# Altium integrated library Motorola Microcontroller 16-Bit.IntLib: 323 symbols (part 19 of 21)
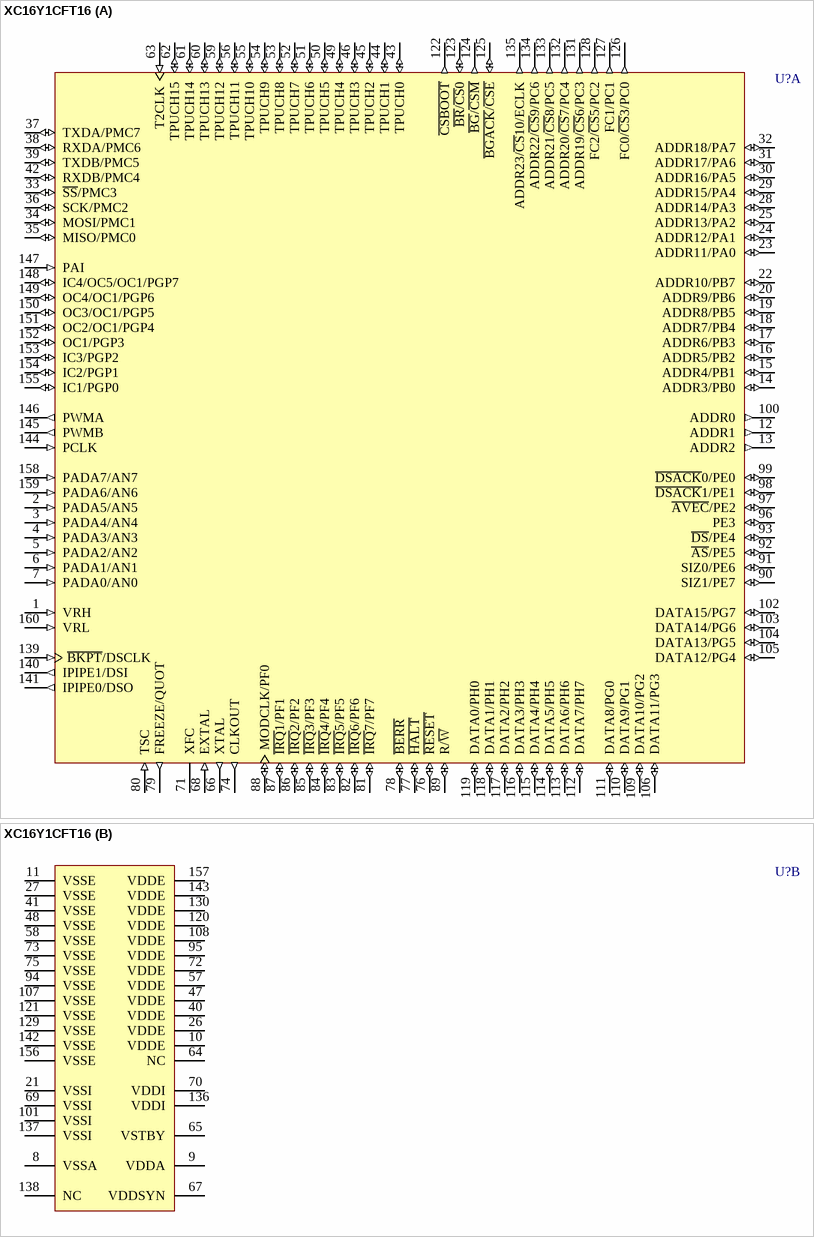
[diagram p158: symbol XC16Y1CFT16]

## XC16Y1CFT16
designator U?
16-Bit Microcontroller; PackageDocument: rev1.3, Nov-1998; Published: 21-Mar-2003; LatestRevisionDate: 6-Jun-2005; LatestRevisionNote: Stylized 3D Model Added.; DatasheetDocument: Jan-1993; PackageReference: 864A-01; Publisher: Altium Limited; Code_IPC: QFP28X28-160; ComponentLink1Description: Manufacturer Link; ComponentLink1URL: http://www.freescale.com/; ComponentLink2Description: Datasheet; ComponentLink2URL: http://www.freescale.com/files/microcontrollers/doc/prod_brief/MC68HC16Y1TS.pdf
footprint 864A-01 (QFP; 160 Leads; Body 28 x 28 mm; Pitch 0.65 mm)
3D model XC16-864A-01 (QFP; 160 Leads; Body 28 x 28 mm; Pitch 0.65 mm)
part A pins: 1 VRH (in), 2 PADA5/AN5 (in), 3 PADA4/AN4 (in), 4 PADA3/AN3 (in), 5 PADA2/AN2 (in), 6 PADA1/AN1 (in), 7 PADA0/AN0 (in), 12 ADDR1 (out), 13 ADDR2 (out), 14 ADDR3/PB0 (io), 15 ADDR4/PB1 (io), 16 ADDR5/PB2 (io), 17 ADDR6/PB3 (io), 18 ADDR7/PB4 (io), 19 ADDR8/PB5 (io), 20 ADDR9/PB6 (io), 22 ADDR10/PB7 (io), 23 ADDR11/PA0 (io), 24 ADDR12/PA1 (io), 25 ADDR13/PA2 (io), 28 ADDR14/PA3 (io), 29 ADDR15/PA4 (io), 30 ADDR16/PA5 (io), 31 ADDR17/PA6 (io), 32 ADDR18/PA7 (io), 33 ~{SS}/PMC3 (io), 34 MOSI/PMC1 (io), 35 MISO/PMC0 (io), 36 SCK/PMC2 (io), 37 TXDA/PMC7 (io), 38 RXDA/PMC6 (io), 39 TXDB/PMC5 (io), 42 RXDB/PMC4 (io), 43 TPUCH0 (io), 44 TPUCH1 (io), 45 TPUCH2 (io), 46 TPUCH3 (io), 49 TPUCH4 (io), 50 TPUCH5 (io), 51 TPUCH6 (io), 52 TPUCH7 (io), 53 TPUCH8 (io), 54 TPUCH9 (io), 55 TPUCH10 (io), 56 TPUCH11 (io), 59 TPUCH12 (io), 60 TPUCH13 (io), 61 TPUCH14 (io), 62 TPUCH15 (io), 63 T2CLK (in), 66 XTAL (out), 68 EXTAL (in), 71 XFC, 74 CLKOUT (out), 76 ~{RESET} (io), 77 ~{HALT} (io), 78 ~{BERR} (io), 79 FREEZE/QUOT (out), 80 TSC (in), 81 ~{IRQ}7/PF7 (io), 82 ~{IRQ}6/PF6 (io), 83 ~{IRQ}5/PF5 (io), 84 ~{IRQ}4/PF4 (io), 85 ~{IRQ}3/PF3 (io), 86 ~{IRQ}2/PF2 (io), 87 ~{IRQ}1/PF1 (io), 88 MODCLK/PF0 (io), 89 R/~{W} (io), 90 SIZ1/PE7 (io), 91 SIZ0/PE6 (io), 92 ~{AS}/PE5 (io), 93 ~{DS}/PE4 (io), 96 PE3 (io), 97 ~{AVEC}/PE2 (io), 98 ~{DSACK}1/PE1 (io), 99 ~{DSACK}0/PE0 (io), 100 ADDR0 (out), 102 DATA15/PG7 (io), 103 DATA14/PG6 (io), 104 DATA13/PG5 (io), 105 DATA12/PG4 (io), 106 DATA11/PG3 (io), 109 DATA10/PG2 (io), 110 DATA9/PG1 (io), 111 DATA8/PG0 (io), 112 DATA7/PH7 (io), 113 DATA6/PH6 (io), 114 DATA5/PH5 (io), 115 DATA4/PH4 (io), 116 DATA3/PH3 (io), 117 DATA2/PH2 (io), 118 DATA1/PH1 (io), 119 DATA0/PH0 (io), 122 ~{CSBOOT} (out), 123 ~{BR}/~{CS}0 (io), 124 ~{BG}/~{CSM} (out), 125 ~{BGACK}/~{CSE} (io), 126 FC0/~{CS}3/PC0 (out), 127 FC1/PC1 (out), 128 FC2/~{CS}5/PC2 (out), 131 ADDR19/~{CS}6/PC3 (out), 132 ADDR20/~{CS}7/PC4 (out), 133 ADDR21/~{CS}8/PC5 (out), 134 ADDR22/~{CS}9/PC6 (out), 135 ADDR23/~{CS}10/ECLK (out), 139 ~{BKPT}/DSCLK (in), 140 IPIPE1/DSI (out), 141 IPIPE0/DSO (out), 144 PCLK (in), 145 PWMB (out), 146 PWMA (out), 147 PAI (in), 148 IC4/OC5/OC1/PGP7 (io), 149 OC4/OC1/PGP6 (io), 150 OC3/OC1/PGP5 (io), 151 OC2/OC1/PGP4 (io), 152 OC1/PGP3 (io), 153 IC3/PGP2 (io), 154 IC2/PGP1 (io), 155 IC1/PGP0 (io), 158 PADA7/AN7 (in), 159 PADA6/AN6 (in), 160 VRL (in)
part B pins: 8 VSSA (power), 9 VDDA (power), 10 VDDE (power), 11 VSSE (power), 21 VSSI (power), 26 VDDE (power), 27 VSSE (power), 40 VDDE (power), 41 VSSE (power), 47 VDDE (power), 48 VSSE (power), 57 VDDE (power), 58 VSSE (power), 64 NC, 65 VSTBY (power), 67 VDDSYN (power), 69 VSSI (power), 70 VDDI (power), 72 VDDE (power), 73 VSSE (power), 75 VSSE (power), 94 VSSE (power), 95 VDDE (power), 101 VSSI (power), 107 VSSE (power), 108 VDDE (power), 120 VDDE (power), 121 VSSE (power), 129 VSSE (power), 130 VDDE (power), 136 VDDI (power), 137 VSSI (power), 138 NC, 142 VSSE (power), 143 VDDE (power), 156 VSSE (power), 157 VDDE (power)

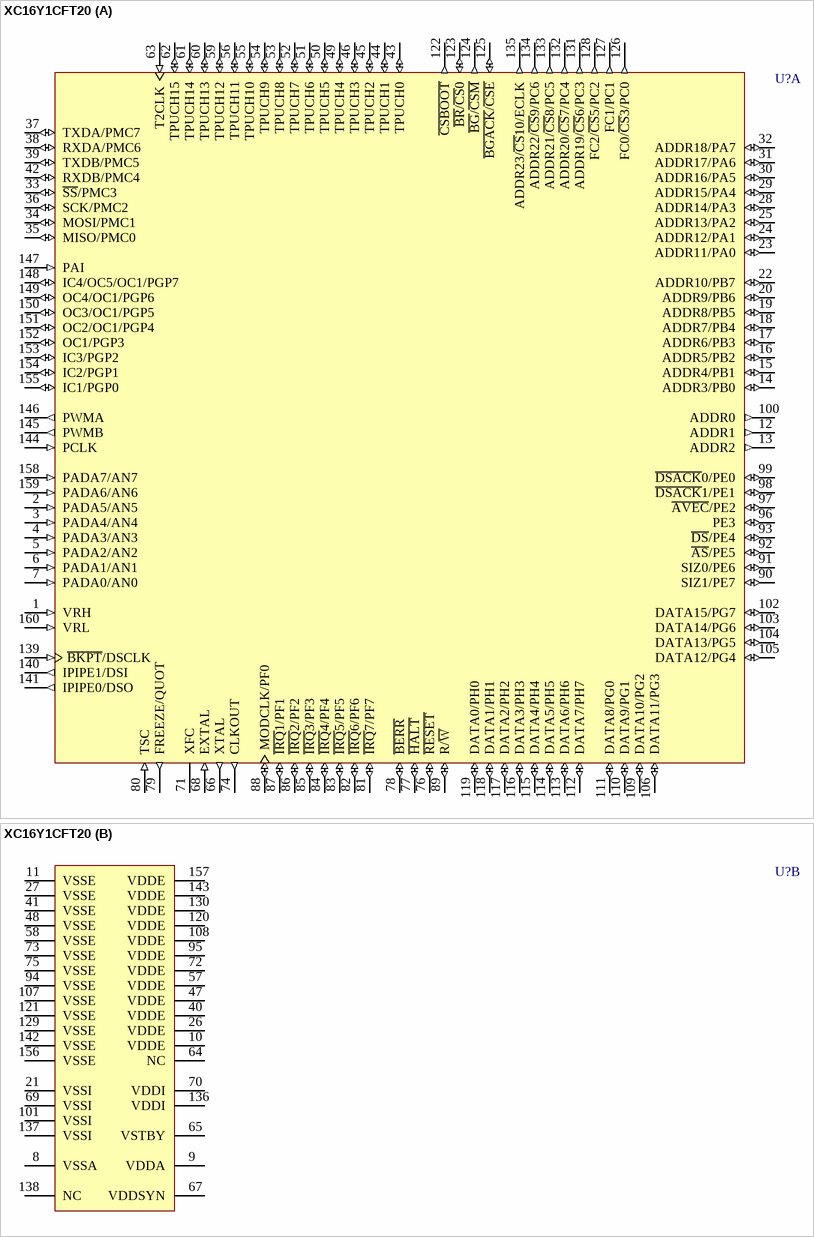
[diagram p123: symbol XC16Y1CFT20]

## XC16Y1CFT20
designator U?
16-Bit Microcontroller; PackageDocument: rev1.3, Nov-1998; Published: 21-Mar-2003; LatestRevisionDate: 6-Jun-2005; LatestRevisionNote: Stylized 3D Model Added.; DatasheetDocument: Jan-1993; PackageReference: 864A-01; Publisher: Altium Limited; Code_IPC: QFP28X28-160; ComponentLink1Description: Manufacturer Link; ComponentLink1URL: http://www.freescale.com/; ComponentLink2Description: Datasheet; ComponentLink2URL: http://www.freescale.com/files/microcontrollers/doc/prod_brief/MC68HC16Y1TS.pdf
footprint 864A-01 (QFP; 160 Leads; Body 28 x 28 mm; Pitch 0.65 mm)
3D model XC16-864A-01 (QFP; 160 Leads; Body 28 x 28 mm; Pitch 0.65 mm)
part A pins: 1 VRH (in), 2 PADA5/AN5 (in), 3 PADA4/AN4 (in), 4 PADA3/AN3 (in), 5 PADA2/AN2 (in), 6 PADA1/AN1 (in), 7 PADA0/AN0 (in), 12 ADDR1 (out), 13 ADDR2 (out), 14 ADDR3/PB0 (io), 15 ADDR4/PB1 (io), 16 ADDR5/PB2 (io), 17 ADDR6/PB3 (io), 18 ADDR7/PB4 (io), 19 ADDR8/PB5 (io), 20 ADDR9/PB6 (io), 22 ADDR10/PB7 (io), 23 ADDR11/PA0 (io), 24 ADDR12/PA1 (io), 25 ADDR13/PA2 (io), 28 ADDR14/PA3 (io), 29 ADDR15/PA4 (io), 30 ADDR16/PA5 (io), 31 ADDR17/PA6 (io), 32 ADDR18/PA7 (io), 33 ~{SS}/PMC3 (io), 34 MOSI/PMC1 (io), 35 MISO/PMC0 (io), 36 SCK/PMC2 (io), 37 TXDA/PMC7 (io), 38 RXDA/PMC6 (io), 39 TXDB/PMC5 (io), 42 RXDB/PMC4 (io), 43 TPUCH0 (io), 44 TPUCH1 (io), 45 TPUCH2 (io), 46 TPUCH3 (io), 49 TPUCH4 (io), 50 TPUCH5 (io), 51 TPUCH6 (io), 52 TPUCH7 (io), 53 TPUCH8 (io), 54 TPUCH9 (io), 55 TPUCH10 (io), 56 TPUCH11 (io), 59 TPUCH12 (io), 60 TPUCH13 (io), 61 TPUCH14 (io), 62 TPUCH15 (io), 63 T2CLK (in), 66 XTAL (out), 68 EXTAL (in), 71 XFC, 74 CLKOUT (out), 76 ~{RESET} (io), 77 ~{HALT} (io), 78 ~{BERR} (io), 79 FREEZE/QUOT (out), 80 TSC (in), 81 ~{IRQ}7/PF7 (io), 82 ~{IRQ}6/PF6 (io), 83 ~{IRQ}5/PF5 (io), 84 ~{IRQ}4/PF4 (io), 85 ~{IRQ}3/PF3 (io), 86 ~{IRQ}2/PF2 (io), 87 ~{IRQ}1/PF1 (io), 88 MODCLK/PF0 (io), 89 R/~{W} (io), 90 SIZ1/PE7 (io), 91 SIZ0/PE6 (io), 92 ~{AS}/PE5 (io), 93 ~{DS}/PE4 (io), 96 PE3 (io), 97 ~{AVEC}/PE2 (io), 98 ~{DSACK}1/PE1 (io), 99 ~{DSACK}0/PE0 (io), 100 ADDR0 (out), 102 DATA15/PG7 (io), 103 DATA14/PG6 (io), 104 DATA13/PG5 (io), 105 DATA12/PG4 (io), 106 DATA11/PG3 (io), 109 DATA10/PG2 (io), 110 DATA9/PG1 (io), 111 DATA8/PG0 (io), 112 DATA7/PH7 (io), 113 DATA6/PH6 (io), 114 DATA5/PH5 (io), 115 DATA4/PH4 (io), 116 DATA3/PH3 (io), 117 DATA2/PH2 (io), 118 DATA1/PH1 (io), 119 DATA0/PH0 (io), 122 ~{CSBOOT} (out), 123 ~{BR}/~{CS}0 (io), 124 ~{BG}/~{CSM} (out), 125 ~{BGACK}/~{CSE} (io), 126 FC0/~{CS}3/PC0 (out), 127 FC1/PC1 (out), 128 FC2/~{CS}5/PC2 (out), 131 ADDR19/~{CS}6/PC3 (out), 132 ADDR20/~{CS}7/PC4 (out), 133 ADDR21/~{CS}8/PC5 (out), 134 ADDR22/~{CS}9/PC6 (out), 135 ADDR23/~{CS}10/ECLK (out), 139 ~{BKPT}/DSCLK (in), 140 IPIPE1/DSI (out), 141 IPIPE0/DSO (out), 144 PCLK (in), 145 PWMB (out), 146 PWMA (out), 147 PAI (in), 148 IC4/OC5/OC1/PGP7 (io), 149 OC4/OC1/PGP6 (io), 150 OC3/OC1/PGP5 (io), 151 OC2/OC1/PGP4 (io), 152 OC1/PGP3 (io), 153 IC3/PGP2 (io), 154 IC2/PGP1 (io), 155 IC1/PGP0 (io), 158 PADA7/AN7 (in), 159 PADA6/AN6 (in), 160 VRL (in)
part B pins: 8 VSSA (power), 9 VDDA (power), 10 VDDE (power), 11 VSSE (power), 21 VSSI (power), 26 VDDE (power), 27 VSSE (power), 40 VDDE (power), 41 VSSE (power), 47 VDDE (power), 48 VSSE (power), 57 VDDE (power), 58 VSSE (power), 64 NC, 65 VSTBY (power), 67 VDDSYN (power), 69 VSSI (power), 70 VDDI (power), 72 VDDE (power), 73 VSSE (power), 75 VSSE (power), 94 VSSE (power), 95 VDDE (power), 101 VSSI (power), 107 VSSE (power), 108 VDDE (power), 120 VDDE (power), 121 VSSE (power), 129 VSSE (power), 130 VDDE (power), 136 VDDI (power), 137 VSSI (power), 138 NC, 142 VSSE (power), 143 VDDE (power), 156 VSSE (power), 157 VDDE (power)

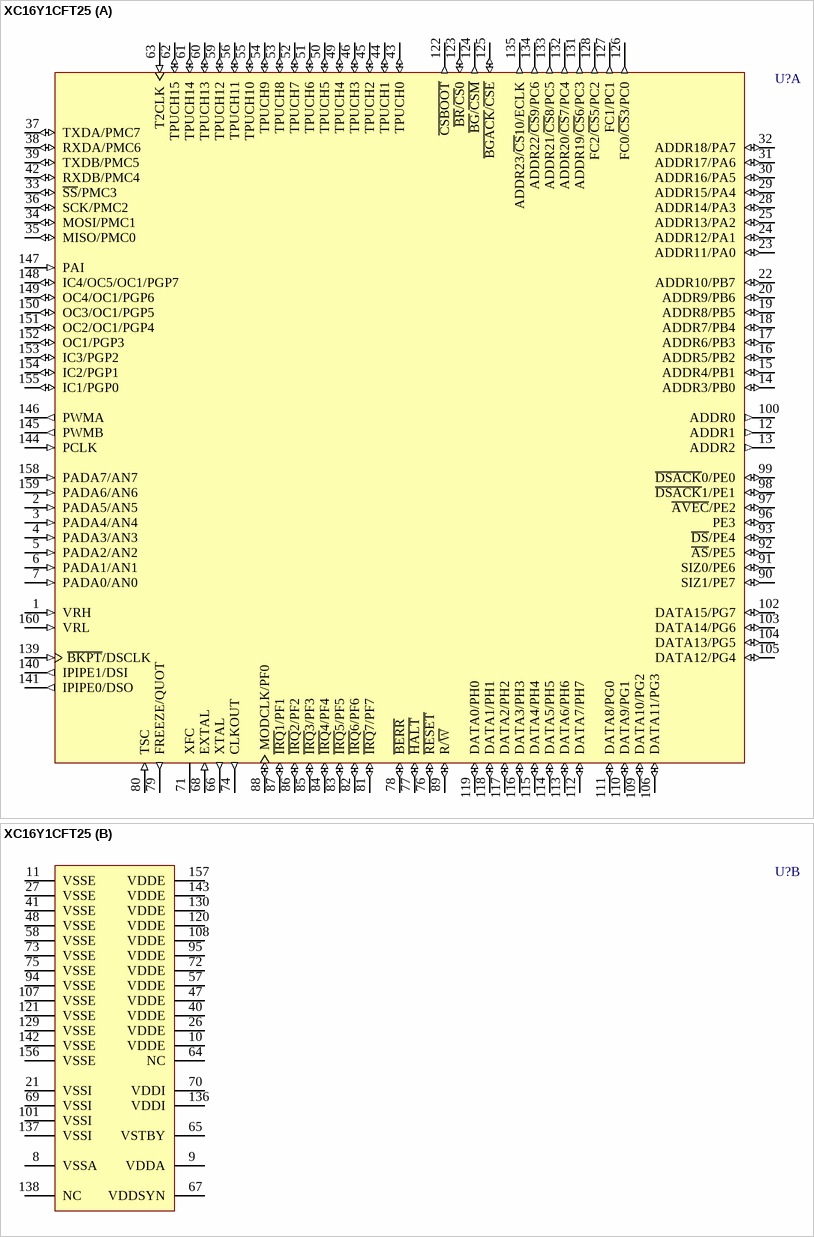
[diagram p124: symbol XC16Y1CFT25]

## XC16Y1CFT25
designator U?
16-Bit Microcontroller; PackageDocument: rev1.3, Nov-1998; Published: 21-Mar-2003; LatestRevisionDate: 6-Jun-2005; LatestRevisionNote: Stylized 3D Model Added.; DatasheetDocument: Jan-1993; PackageReference: 864A-01; Publisher: Altium Limited; Code_IPC: QFP28X28-160; ComponentLink1Description: Manufacturer Link; ComponentLink1URL: http://www.freescale.com/; ComponentLink2Description: Datasheet; ComponentLink2URL: http://www.freescale.com/files/microcontrollers/doc/prod_brief/MC68HC16Y1TS.pdf
footprint 864A-01 (QFP; 160 Leads; Body 28 x 28 mm; Pitch 0.65 mm)
3D model XC16-864A-01 (QFP; 160 Leads; Body 28 x 28 mm; Pitch 0.65 mm)
part A pins: 1 VRH (in), 2 PADA5/AN5 (in), 3 PADA4/AN4 (in), 4 PADA3/AN3 (in), 5 PADA2/AN2 (in), 6 PADA1/AN1 (in), 7 PADA0/AN0 (in), 12 ADDR1 (out), 13 ADDR2 (out), 14 ADDR3/PB0 (io), 15 ADDR4/PB1 (io), 16 ADDR5/PB2 (io), 17 ADDR6/PB3 (io), 18 ADDR7/PB4 (io), 19 ADDR8/PB5 (io), 20 ADDR9/PB6 (io), 22 ADDR10/PB7 (io), 23 ADDR11/PA0 (io), 24 ADDR12/PA1 (io), 25 ADDR13/PA2 (io), 28 ADDR14/PA3 (io), 29 ADDR15/PA4 (io), 30 ADDR16/PA5 (io), 31 ADDR17/PA6 (io), 32 ADDR18/PA7 (io), 33 ~{SS}/PMC3 (io), 34 MOSI/PMC1 (io), 35 MISO/PMC0 (io), 36 SCK/PMC2 (io), 37 TXDA/PMC7 (io), 38 RXDA/PMC6 (io), 39 TXDB/PMC5 (io), 42 RXDB/PMC4 (io), 43 TPUCH0 (io), 44 TPUCH1 (io), 45 TPUCH2 (io), 46 TPUCH3 (io), 49 TPUCH4 (io), 50 TPUCH5 (io), 51 TPUCH6 (io), 52 TPUCH7 (io), 53 TPUCH8 (io), 54 TPUCH9 (io), 55 TPUCH10 (io), 56 TPUCH11 (io), 59 TPUCH12 (io), 60 TPUCH13 (io), 61 TPUCH14 (io), 62 TPUCH15 (io), 63 T2CLK (in), 66 XTAL (out), 68 EXTAL (in), 71 XFC, 74 CLKOUT (out), 76 ~{RESET} (io), 77 ~{HALT} (io), 78 ~{BERR} (io), 79 FREEZE/QUOT (out), 80 TSC (in), 81 ~{IRQ}7/PF7 (io), 82 ~{IRQ}6/PF6 (io), 83 ~{IRQ}5/PF5 (io), 84 ~{IRQ}4/PF4 (io), 85 ~{IRQ}3/PF3 (io), 86 ~{IRQ}2/PF2 (io), 87 ~{IRQ}1/PF1 (io), 88 MODCLK/PF0 (io), 89 R/~{W} (io), 90 SIZ1/PE7 (io), 91 SIZ0/PE6 (io), 92 ~{AS}/PE5 (io), 93 ~{DS}/PE4 (io), 96 PE3 (io), 97 ~{AVEC}/PE2 (io), 98 ~{DSACK}1/PE1 (io), 99 ~{DSACK}0/PE0 (io), 100 ADDR0 (out), 102 DATA15/PG7 (io), 103 DATA14/PG6 (io), 104 DATA13/PG5 (io), 105 DATA12/PG4 (io), 106 DATA11/PG3 (io), 109 DATA10/PG2 (io), 110 DATA9/PG1 (io), 111 DATA8/PG0 (io), 112 DATA7/PH7 (io), 113 DATA6/PH6 (io), 114 DATA5/PH5 (io), 115 DATA4/PH4 (io), 116 DATA3/PH3 (io), 117 DATA2/PH2 (io), 118 DATA1/PH1 (io), 119 DATA0/PH0 (io), 122 ~{CSBOOT} (out), 123 ~{BR}/~{CS}0 (io), 124 ~{BG}/~{CSM} (out), 125 ~{BGACK}/~{CSE} (io), 126 FC0/~{CS}3/PC0 (out), 127 FC1/PC1 (out), 128 FC2/~{CS}5/PC2 (out), 131 ADDR19/~{CS}6/PC3 (out), 132 ADDR20/~{CS}7/PC4 (out), 133 ADDR21/~{CS}8/PC5 (out), 134 ADDR22/~{CS}9/PC6 (out), 135 ADDR23/~{CS}10/ECLK (out), 139 ~{BKPT}/DSCLK (in), 140 IPIPE1/DSI (out), 141 IPIPE0/DSO (out), 144 PCLK (in), 145 PWMB (out), 146 PWMA (out), 147 PAI (in), 148 IC4/OC5/OC1/PGP7 (io), 149 OC4/OC1/PGP6 (io), 150 OC3/OC1/PGP5 (io), 151 OC2/OC1/PGP4 (io), 152 OC1/PGP3 (io), 153 IC3/PGP2 (io), 154 IC2/PGP1 (io), 155 IC1/PGP0 (io), 158 PADA7/AN7 (in), 159 PADA6/AN6 (in), 160 VRL (in)
part B pins: 8 VSSA (power), 9 VDDA (power), 10 VDDE (power), 11 VSSE (power), 21 VSSI (power), 26 VDDE (power), 27 VSSE (power), 40 VDDE (power), 41 VSSE (power), 47 VDDE (power), 48 VSSE (power), 57 VDDE (power), 58 VSSE (power), 64 NC, 65 VSTBY (power), 67 VDDSYN (power), 69 VSSI (power), 70 VDDI (power), 72 VDDE (power), 73 VSSE (power), 75 VSSE (power), 94 VSSE (power), 95 VDDE (power), 101 VSSI (power), 107 VSSE (power), 108 VDDE (power), 120 VDDE (power), 121 VSSE (power), 129 VSSE (power), 130 VDDE (power), 136 VDDI (power), 137 VSSI (power), 138 NC, 142 VSSE (power), 143 VDDE (power), 156 VSSE (power), 157 VDDE (power)

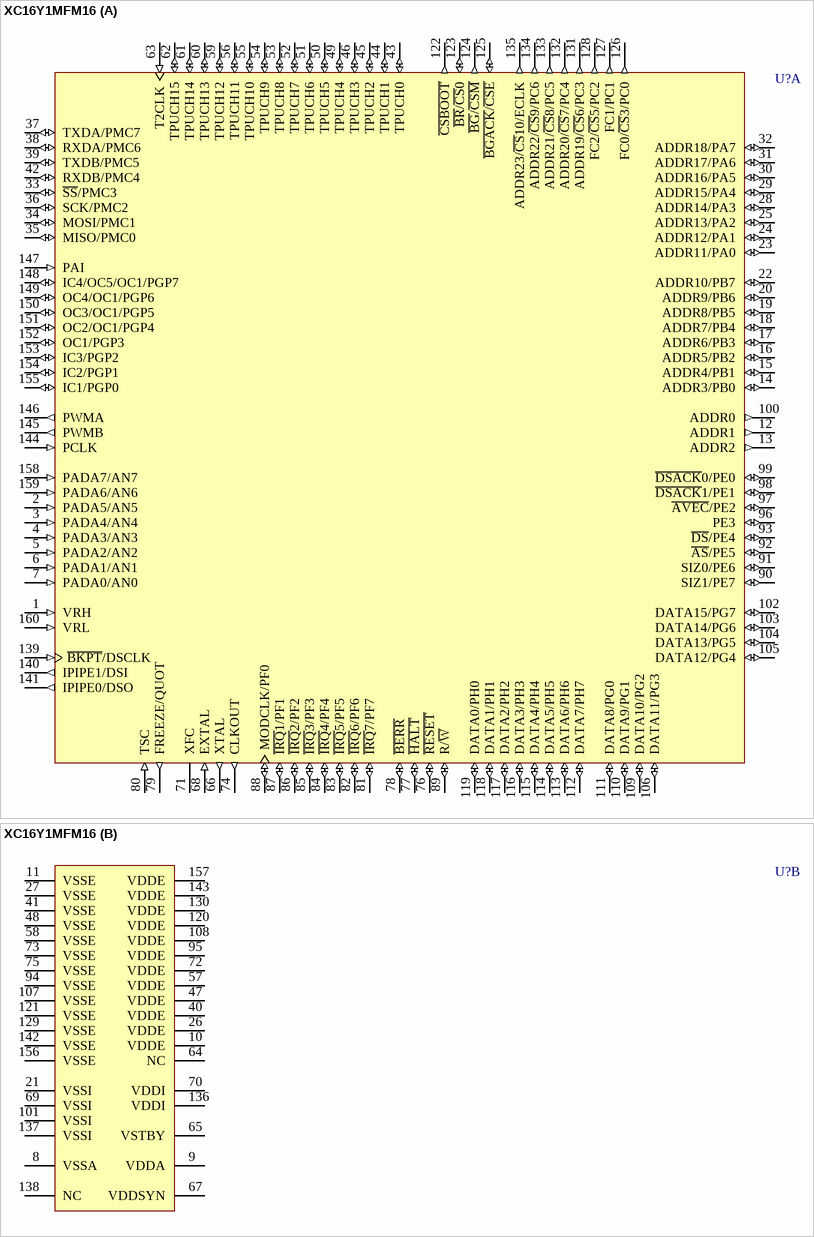
[diagram p125: symbol XC16Y1MFM16]

## XC16Y1MFM16
designator U?
16-Bit Microcontroller; PackageDocument: 1993; Published: 21-Mar-2003; LatestRevisionDate: 6-Jun-2005; LatestRevisionNote: Stylized 3D Model Added.; DatasheetDocument: Jan-1993; PackageReference: 887-01; Publisher: Altium Limited; ComponentLink1Description: Manufacturer Link; ComponentLink1URL: http://www.freescale.com/; ComponentLink2Description: Datasheet; ComponentLink2URL: http://www.freescale.com/files/microcontrollers/doc/prod_brief/MC68HC16Y1TS.pdf
footprint 887-01 (QFP, with Molded Carrier Ring; 160 Leads; Body 28 x 28 mm; Pitch 0.65mm)
3D model XC16-887-01 (QFP, with Molded Carrier Ring; 160 Leads; Body 28 x 28 mm; Pitch 0.65mm)
part A pins: 1 VRH (in), 2 PADA5/AN5 (in), 3 PADA4/AN4 (in), 4 PADA3/AN3 (in), 5 PADA2/AN2 (in), 6 PADA1/AN1 (in), 7 PADA0/AN0 (in), 12 ADDR1 (out), 13 ADDR2 (out), 14 ADDR3/PB0 (io), 15 ADDR4/PB1 (io), 16 ADDR5/PB2 (io), 17 ADDR6/PB3 (io), 18 ADDR7/PB4 (io), 19 ADDR8/PB5 (io), 20 ADDR9/PB6 (io), 22 ADDR10/PB7 (io), 23 ADDR11/PA0 (io), 24 ADDR12/PA1 (io), 25 ADDR13/PA2 (io), 28 ADDR14/PA3 (io), 29 ADDR15/PA4 (io), 30 ADDR16/PA5 (io), 31 ADDR17/PA6 (io), 32 ADDR18/PA7 (io), 33 ~{SS}/PMC3 (io), 34 MOSI/PMC1 (io), 35 MISO/PMC0 (io), 36 SCK/PMC2 (io), 37 TXDA/PMC7 (io), 38 RXDA/PMC6 (io), 39 TXDB/PMC5 (io), 42 RXDB/PMC4 (io), 43 TPUCH0 (io), 44 TPUCH1 (io), 45 TPUCH2 (io), 46 TPUCH3 (io), 49 TPUCH4 (io), 50 TPUCH5 (io), 51 TPUCH6 (io), 52 TPUCH7 (io), 53 TPUCH8 (io), 54 TPUCH9 (io), 55 TPUCH10 (io), 56 TPUCH11 (io), 59 TPUCH12 (io), 60 TPUCH13 (io), 61 TPUCH14 (io), 62 TPUCH15 (io), 63 T2CLK (in), 66 XTAL (out), 68 EXTAL (in), 71 XFC, 74 CLKOUT (out), 76 ~{RESET} (io), 77 ~{HALT} (io), 78 ~{BERR} (io), 79 FREEZE/QUOT (out), 80 TSC (in), 81 ~{IRQ}7/PF7 (io), 82 ~{IRQ}6/PF6 (io), 83 ~{IRQ}5/PF5 (io), 84 ~{IRQ}4/PF4 (io), 85 ~{IRQ}3/PF3 (io), 86 ~{IRQ}2/PF2 (io), 87 ~{IRQ}1/PF1 (io), 88 MODCLK/PF0 (io), 89 R/~{W} (io), 90 SIZ1/PE7 (io), 91 SIZ0/PE6 (io), 92 ~{AS}/PE5 (io), 93 ~{DS}/PE4 (io), 96 PE3 (io), 97 ~{AVEC}/PE2 (io), 98 ~{DSACK}1/PE1 (io), 99 ~{DSACK}0/PE0 (io), 100 ADDR0 (out), 102 DATA15/PG7 (io), 103 DATA14/PG6 (io), 104 DATA13/PG5 (io), 105 DATA12/PG4 (io), 106 DATA11/PG3 (io), 109 DATA10/PG2 (io), 110 DATA9/PG1 (io), 111 DATA8/PG0 (io), 112 DATA7/PH7 (io), 113 DATA6/PH6 (io), 114 DATA5/PH5 (io), 115 DATA4/PH4 (io), 116 DATA3/PH3 (io), 117 DATA2/PH2 (io), 118 DATA1/PH1 (io), 119 DATA0/PH0 (io), 122 ~{CSBOOT} (out), 123 ~{BR}/~{CS}0 (io), 124 ~{BG}/~{CSM} (out), 125 ~{BGACK}/~{CSE} (io), 126 FC0/~{CS}3/PC0 (out), 127 FC1/PC1 (out), 128 FC2/~{CS}5/PC2 (out), 131 ADDR19/~{CS}6/PC3 (out), 132 ADDR20/~{CS}7/PC4 (out), 133 ADDR21/~{CS}8/PC5 (out), 134 ADDR22/~{CS}9/PC6 (out), 135 ADDR23/~{CS}10/ECLK (out), 139 ~{BKPT}/DSCLK (in), 140 IPIPE1/DSI (out), 141 IPIPE0/DSO (out), 144 PCLK (in), 145 PWMB (out), 146 PWMA (out), 147 PAI (in), 148 IC4/OC5/OC1/PGP7 (io), 149 OC4/OC1/PGP6 (io), 150 OC3/OC1/PGP5 (io), 151 OC2/OC1/PGP4 (io), 152 OC1/PGP3 (io), 153 IC3/PGP2 (io), 154 IC2/PGP1 (io), 155 IC1/PGP0 (io), 158 PADA7/AN7 (in), 159 PADA6/AN6 (in), 160 VRL (in)
part B pins: 8 VSSA (power), 9 VDDA (power), 10 VDDE (power), 11 VSSE (power), 21 VSSI (power), 26 VDDE (power), 27 VSSE (power), 40 VDDE (power), 41 VSSE (power), 47 VDDE (power), 48 VSSE (power), 57 VDDE (power), 58 VSSE (power), 64 NC, 65 VSTBY (power), 67 VDDSYN (power), 69 VSSI (power), 70 VDDI (power), 72 VDDE (power), 73 VSSE (power), 75 VSSE (power), 94 VSSE (power), 95 VDDE (power), 101 VSSI (power), 107 VSSE (power), 108 VDDE (power), 120 VDDE (power), 121 VSSE (power), 129 VSSE (power), 130 VDDE (power), 136 VDDI (power), 137 VSSI (power), 138 NC, 142 VSSE (power), 143 VDDE (power), 156 VSSE (power), 157 VDDE (power)

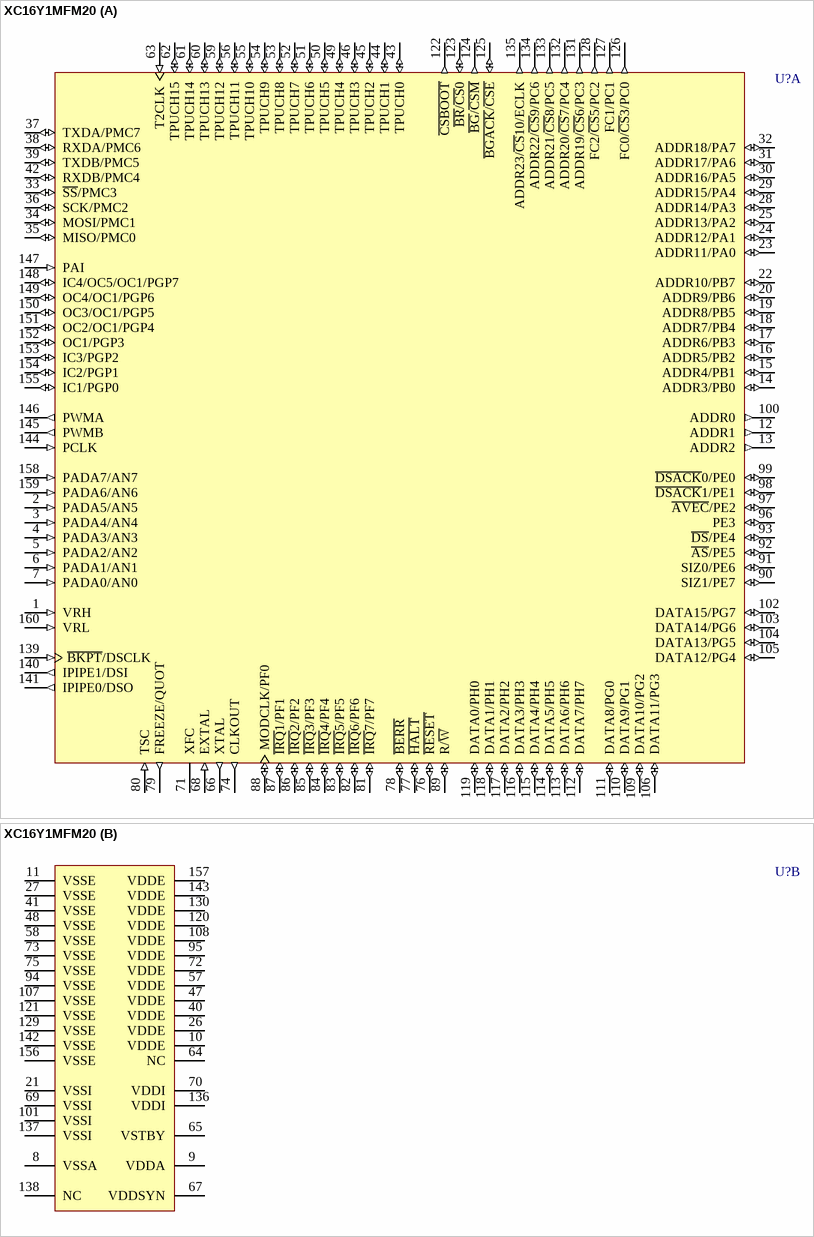
[diagram p126: symbol XC16Y1MFM20]

## XC16Y1MFM20
designator U?
16-Bit Microcontroller; PackageDocument: 1993; Published: 21-Mar-2003; LatestRevisionDate: 6-Jun-2005; LatestRevisionNote: Stylized 3D Model Added.; DatasheetDocument: Jan-1993; PackageReference: 887-01; Publisher: Altium Limited; ComponentLink1Description: Manufacturer Link; ComponentLink1URL: http://www.freescale.com/; ComponentLink2Description: Datasheet; ComponentLink2URL: http://www.freescale.com/files/microcontrollers/doc/prod_brief/MC68HC16Y1TS.pdf
footprint 887-01 (QFP, with Molded Carrier Ring; 160 Leads; Body 28 x 28 mm; Pitch 0.65mm)
3D model XC16-887-01 (QFP, with Molded Carrier Ring; 160 Leads; Body 28 x 28 mm; Pitch 0.65mm)
part A pins: 1 VRH (in), 2 PADA5/AN5 (in), 3 PADA4/AN4 (in), 4 PADA3/AN3 (in), 5 PADA2/AN2 (in), 6 PADA1/AN1 (in), 7 PADA0/AN0 (in), 12 ADDR1 (out), 13 ADDR2 (out), 14 ADDR3/PB0 (io), 15 ADDR4/PB1 (io), 16 ADDR5/PB2 (io), 17 ADDR6/PB3 (io), 18 ADDR7/PB4 (io), 19 ADDR8/PB5 (io), 20 ADDR9/PB6 (io), 22 ADDR10/PB7 (io), 23 ADDR11/PA0 (io), 24 ADDR12/PA1 (io), 25 ADDR13/PA2 (io), 28 ADDR14/PA3 (io), 29 ADDR15/PA4 (io), 30 ADDR16/PA5 (io), 31 ADDR17/PA6 (io), 32 ADDR18/PA7 (io), 33 ~{SS}/PMC3 (io), 34 MOSI/PMC1 (io), 35 MISO/PMC0 (io), 36 SCK/PMC2 (io), 37 TXDA/PMC7 (io), 38 RXDA/PMC6 (io), 39 TXDB/PMC5 (io), 42 RXDB/PMC4 (io), 43 TPUCH0 (io), 44 TPUCH1 (io), 45 TPUCH2 (io), 46 TPUCH3 (io), 49 TPUCH4 (io), 50 TPUCH5 (io), 51 TPUCH6 (io), 52 TPUCH7 (io), 53 TPUCH8 (io), 54 TPUCH9 (io), 55 TPUCH10 (io), 56 TPUCH11 (io), 59 TPUCH12 (io), 60 TPUCH13 (io), 61 TPUCH14 (io), 62 TPUCH15 (io), 63 T2CLK (in), 66 XTAL (out), 68 EXTAL (in), 71 XFC, 74 CLKOUT (out), 76 ~{RESET} (io), 77 ~{HALT} (io), 78 ~{BERR} (io), 79 FREEZE/QUOT (out), 80 TSC (in), 81 ~{IRQ}7/PF7 (io), 82 ~{IRQ}6/PF6 (io), 83 ~{IRQ}5/PF5 (io), 84 ~{IRQ}4/PF4 (io), 85 ~{IRQ}3/PF3 (io), 86 ~{IRQ}2/PF2 (io), 87 ~{IRQ}1/PF1 (io), 88 MODCLK/PF0 (io), 89 R/~{W} (io), 90 SIZ1/PE7 (io), 91 SIZ0/PE6 (io), 92 ~{AS}/PE5 (io), 93 ~{DS}/PE4 (io), 96 PE3 (io), 97 ~{AVEC}/PE2 (io), 98 ~{DSACK}1/PE1 (io), 99 ~{DSACK}0/PE0 (io), 100 ADDR0 (out), 102 DATA15/PG7 (io), 103 DATA14/PG6 (io), 104 DATA13/PG5 (io), 105 DATA12/PG4 (io), 106 DATA11/PG3 (io), 109 DATA10/PG2 (io), 110 DATA9/PG1 (io), 111 DATA8/PG0 (io), 112 DATA7/PH7 (io), 113 DATA6/PH6 (io), 114 DATA5/PH5 (io), 115 DATA4/PH4 (io), 116 DATA3/PH3 (io), 117 DATA2/PH2 (io), 118 DATA1/PH1 (io), 119 DATA0/PH0 (io), 122 ~{CSBOOT} (out), 123 ~{BR}/~{CS}0 (io), 124 ~{BG}/~{CSM} (out), 125 ~{BGACK}/~{CSE} (io), 126 FC0/~{CS}3/PC0 (out), 127 FC1/PC1 (out), 128 FC2/~{CS}5/PC2 (out), 131 ADDR19/~{CS}6/PC3 (out), 132 ADDR20/~{CS}7/PC4 (out), 133 ADDR21/~{CS}8/PC5 (out), 134 ADDR22/~{CS}9/PC6 (out), 135 ADDR23/~{CS}10/ECLK (out), 139 ~{BKPT}/DSCLK (in), 140 IPIPE1/DSI (out), 141 IPIPE0/DSO (out), 144 PCLK (in), 145 PWMB (out), 146 PWMA (out), 147 PAI (in), 148 IC4/OC5/OC1/PGP7 (io), 149 OC4/OC1/PGP6 (io), 150 OC3/OC1/PGP5 (io), 151 OC2/OC1/PGP4 (io), 152 OC1/PGP3 (io), 153 IC3/PGP2 (io), 154 IC2/PGP1 (io), 155 IC1/PGP0 (io), 158 PADA7/AN7 (in), 159 PADA6/AN6 (in), 160 VRL (in)
part B pins: 8 VSSA (power), 9 VDDA (power), 10 VDDE (power), 11 VSSE (power), 21 VSSI (power), 26 VDDE (power), 27 VSSE (power), 40 VDDE (power), 41 VSSE (power), 47 VDDE (power), 48 VSSE (power), 57 VDDE (power), 58 VSSE (power), 64 NC, 65 VSTBY (power), 67 VDDSYN (power), 69 VSSI (power), 70 VDDI (power), 72 VDDE (power), 73 VSSE (power), 75 VSSE (power), 94 VSSE (power), 95 VDDE (power), 101 VSSI (power), 107 VSSE (power), 108 VDDE (power), 120 VDDE (power), 121 VSSE (power), 129 VSSE (power), 130 VDDE (power), 136 VDDI (power), 137 VSSI (power), 138 NC, 142 VSSE (power), 143 VDDE (power), 156 VSSE (power), 157 VDDE (power)

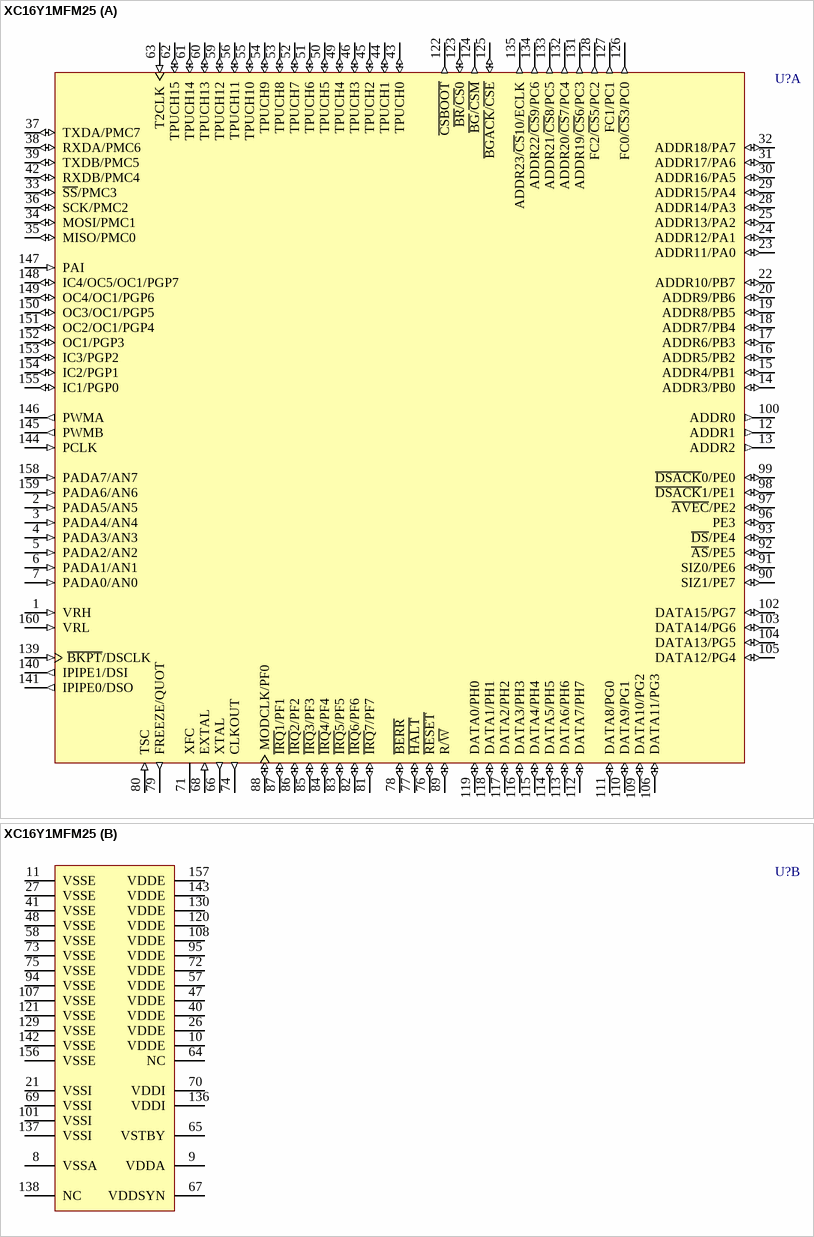
[diagram p127: symbol XC16Y1MFM25]

## XC16Y1MFM25
designator U?
16-Bit Microcontroller; PackageDocument: 1993; Published: 21-Mar-2003; LatestRevisionDate: 6-Jun-2005; LatestRevisionNote: Stylized 3D Model Added.; DatasheetDocument: Jan-1993; PackageReference: 887-01; Publisher: Altium Limited; ComponentLink1Description: Manufacturer Link; ComponentLink1URL: http://www.freescale.com/; ComponentLink2Description: Datasheet; ComponentLink2URL: http://www.freescale.com/files/microcontrollers/doc/prod_brief/MC68HC16Y1TS.pdf
footprint 887-01 (QFP, with Molded Carrier Ring; 160 Leads; Body 28 x 28 mm; Pitch 0.65mm)
3D model XC16-887-01 (QFP, with Molded Carrier Ring; 160 Leads; Body 28 x 28 mm; Pitch 0.65mm)
part A pins: 1 VRH (in), 2 PADA5/AN5 (in), 3 PADA4/AN4 (in), 4 PADA3/AN3 (in), 5 PADA2/AN2 (in), 6 PADA1/AN1 (in), 7 PADA0/AN0 (in), 12 ADDR1 (out), 13 ADDR2 (out), 14 ADDR3/PB0 (io), 15 ADDR4/PB1 (io), 16 ADDR5/PB2 (io), 17 ADDR6/PB3 (io), 18 ADDR7/PB4 (io), 19 ADDR8/PB5 (io), 20 ADDR9/PB6 (io), 22 ADDR10/PB7 (io), 23 ADDR11/PA0 (io), 24 ADDR12/PA1 (io), 25 ADDR13/PA2 (io), 28 ADDR14/PA3 (io), 29 ADDR15/PA4 (io), 30 ADDR16/PA5 (io), 31 ADDR17/PA6 (io), 32 ADDR18/PA7 (io), 33 ~{SS}/PMC3 (io), 34 MOSI/PMC1 (io), 35 MISO/PMC0 (io), 36 SCK/PMC2 (io), 37 TXDA/PMC7 (io), 38 RXDA/PMC6 (io), 39 TXDB/PMC5 (io), 42 RXDB/PMC4 (io), 43 TPUCH0 (io), 44 TPUCH1 (io), 45 TPUCH2 (io), 46 TPUCH3 (io), 49 TPUCH4 (io), 50 TPUCH5 (io), 51 TPUCH6 (io), 52 TPUCH7 (io), 53 TPUCH8 (io), 54 TPUCH9 (io), 55 TPUCH10 (io), 56 TPUCH11 (io), 59 TPUCH12 (io), 60 TPUCH13 (io), 61 TPUCH14 (io), 62 TPUCH15 (io), 63 T2CLK (in), 66 XTAL (out), 68 EXTAL (in), 71 XFC, 74 CLKOUT (out), 76 ~{RESET} (io), 77 ~{HALT} (io), 78 ~{BERR} (io), 79 FREEZE/QUOT (out), 80 TSC (in), 81 ~{IRQ}7/PF7 (io), 82 ~{IRQ}6/PF6 (io), 83 ~{IRQ}5/PF5 (io), 84 ~{IRQ}4/PF4 (io), 85 ~{IRQ}3/PF3 (io), 86 ~{IRQ}2/PF2 (io), 87 ~{IRQ}1/PF1 (io), 88 MODCLK/PF0 (io), 89 R/~{W} (io), 90 SIZ1/PE7 (io), 91 SIZ0/PE6 (io), 92 ~{AS}/PE5 (io), 93 ~{DS}/PE4 (io), 96 PE3 (io), 97 ~{AVEC}/PE2 (io), 98 ~{DSACK}1/PE1 (io), 99 ~{DSACK}0/PE0 (io), 100 ADDR0 (out), 102 DATA15/PG7 (io), 103 DATA14/PG6 (io), 104 DATA13/PG5 (io), 105 DATA12/PG4 (io), 106 DATA11/PG3 (io), 109 DATA10/PG2 (io), 110 DATA9/PG1 (io), 111 DATA8/PG0 (io), 112 DATA7/PH7 (io), 113 DATA6/PH6 (io), 114 DATA5/PH5 (io), 115 DATA4/PH4 (io), 116 DATA3/PH3 (io), 117 DATA2/PH2 (io), 118 DATA1/PH1 (io), 119 DATA0/PH0 (io), 122 ~{CSBOOT} (out), 123 ~{BR}/~{CS}0 (io), 124 ~{BG}/~{CSM} (out), 125 ~{BGACK}/~{CSE} (io), 126 FC0/~{CS}3/PC0 (out), 127 FC1/PC1 (out), 128 FC2/~{CS}5/PC2 (out), 131 ADDR19/~{CS}6/PC3 (out), 132 ADDR20/~{CS}7/PC4 (out), 133 ADDR21/~{CS}8/PC5 (out), 134 ADDR22/~{CS}9/PC6 (out), 135 ADDR23/~{CS}10/ECLK (out), 139 ~{BKPT}/DSCLK (in), 140 IPIPE1/DSI (out), 141 IPIPE0/DSO (out), 144 PCLK (in), 145 PWMB (out), 146 PWMA (out), 147 PAI (in), 148 IC4/OC5/OC1/PGP7 (io), 149 OC4/OC1/PGP6 (io), 150 OC3/OC1/PGP5 (io), 151 OC2/OC1/PGP4 (io), 152 OC1/PGP3 (io), 153 IC3/PGP2 (io), 154 IC2/PGP1 (io), 155 IC1/PGP0 (io), 158 PADA7/AN7 (in), 159 PADA6/AN6 (in), 160 VRL (in)
part B pins: 8 VSSA (power), 9 VDDA (power), 10 VDDE (power), 11 VSSE (power), 21 VSSI (power), 26 VDDE (power), 27 VSSE (power), 40 VDDE (power), 41 VSSE (power), 47 VDDE (power), 48 VSSE (power), 57 VDDE (power), 58 VSSE (power), 64 NC, 65 VSTBY (power), 67 VDDSYN (power), 69 VSSI (power), 70 VDDI (power), 72 VDDE (power), 73 VSSE (power), 75 VSSE (power), 94 VSSE (power), 95 VDDE (power), 101 VSSI (power), 107 VSSE (power), 108 VDDE (power), 120 VDDE (power), 121 VSSE (power), 129 VSSE (power), 130 VDDE (power), 136 VDDI (power), 137 VSSI (power), 138 NC, 142 VSSE (power), 143 VDDE (power), 156 VSSE (power), 157 VDDE (power)

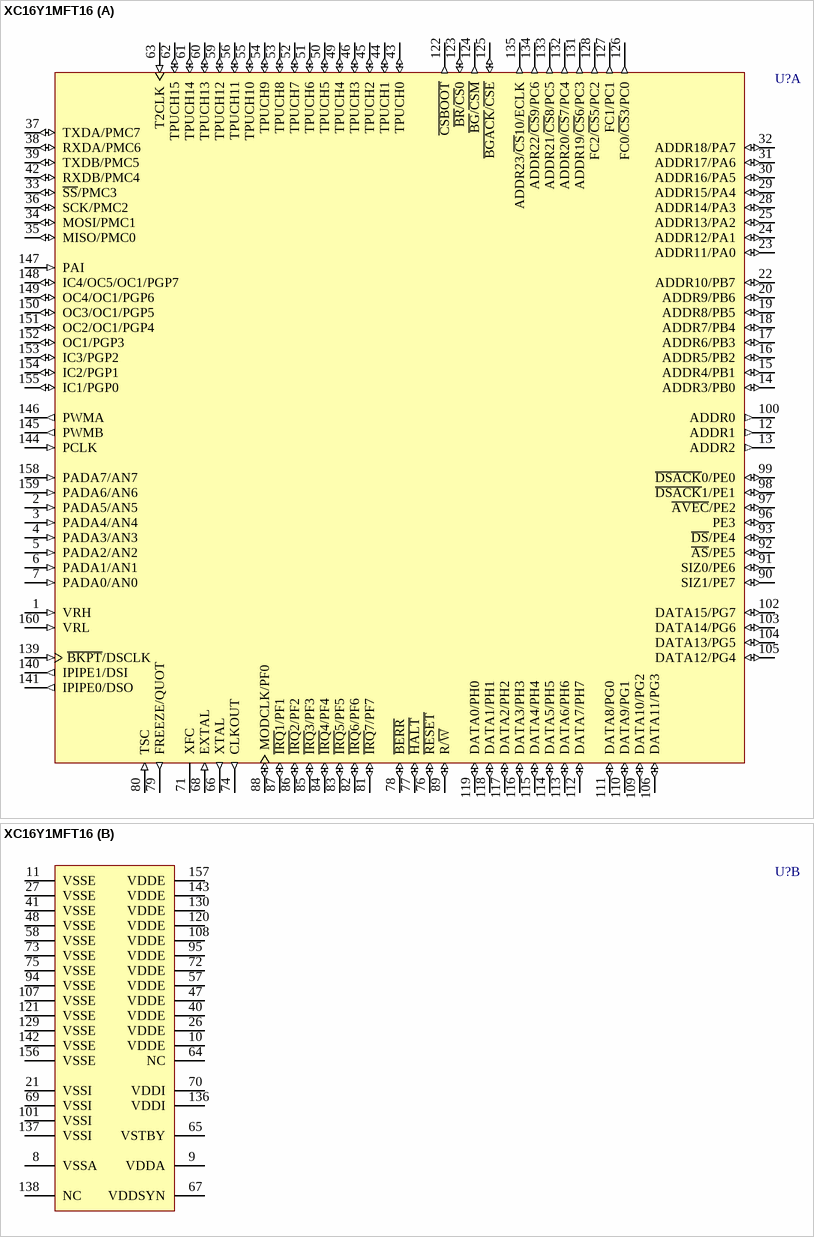
[diagram p128: symbol XC16Y1MFT16]

## XC16Y1MFT16
designator U?
16-Bit Microcontroller; PackageDocument: rev1.3, Nov-1998; Published: 21-Mar-2003; LatestRevisionDate: 6-Jun-2005; LatestRevisionNote: Stylized 3D Model Added.; DatasheetDocument: Jan-1993; PackageReference: 864A-01; Publisher: Altium Limited; Code_IPC: QFP28X28-160; ComponentLink1Description: Manufacturer Link; ComponentLink1URL: http://www.freescale.com/; ComponentLink2Description: Datasheet; ComponentLink2URL: http://www.freescale.com/files/microcontrollers/doc/prod_brief/MC68HC16Y1TS.pdf
footprint 864A-01 (QFP; 160 Leads; Body 28 x 28 mm; Pitch 0.65 mm)
3D model XC16-864A-01 (QFP; 160 Leads; Body 28 x 28 mm; Pitch 0.65 mm)
part A pins: 1 VRH (in), 2 PADA5/AN5 (in), 3 PADA4/AN4 (in), 4 PADA3/AN3 (in), 5 PADA2/AN2 (in), 6 PADA1/AN1 (in), 7 PADA0/AN0 (in), 12 ADDR1 (out), 13 ADDR2 (out), 14 ADDR3/PB0 (io), 15 ADDR4/PB1 (io), 16 ADDR5/PB2 (io), 17 ADDR6/PB3 (io), 18 ADDR7/PB4 (io), 19 ADDR8/PB5 (io), 20 ADDR9/PB6 (io), 22 ADDR10/PB7 (io), 23 ADDR11/PA0 (io), 24 ADDR12/PA1 (io), 25 ADDR13/PA2 (io), 28 ADDR14/PA3 (io), 29 ADDR15/PA4 (io), 30 ADDR16/PA5 (io), 31 ADDR17/PA6 (io), 32 ADDR18/PA7 (io), 33 ~{SS}/PMC3 (io), 34 MOSI/PMC1 (io), 35 MISO/PMC0 (io), 36 SCK/PMC2 (io), 37 TXDA/PMC7 (io), 38 RXDA/PMC6 (io), 39 TXDB/PMC5 (io), 42 RXDB/PMC4 (io), 43 TPUCH0 (io), 44 TPUCH1 (io), 45 TPUCH2 (io), 46 TPUCH3 (io), 49 TPUCH4 (io), 50 TPUCH5 (io), 51 TPUCH6 (io), 52 TPUCH7 (io), 53 TPUCH8 (io), 54 TPUCH9 (io), 55 TPUCH10 (io), 56 TPUCH11 (io), 59 TPUCH12 (io), 60 TPUCH13 (io), 61 TPUCH14 (io), 62 TPUCH15 (io), 63 T2CLK (in), 66 XTAL (out), 68 EXTAL (in), 71 XFC, 74 CLKOUT (out), 76 ~{RESET} (io), 77 ~{HALT} (io), 78 ~{BERR} (io), 79 FREEZE/QUOT (out), 80 TSC (in), 81 ~{IRQ}7/PF7 (io), 82 ~{IRQ}6/PF6 (io), 83 ~{IRQ}5/PF5 (io), 84 ~{IRQ}4/PF4 (io), 85 ~{IRQ}3/PF3 (io), 86 ~{IRQ}2/PF2 (io), 87 ~{IRQ}1/PF1 (io), 88 MODCLK/PF0 (io), 89 R/~{W} (io), 90 SIZ1/PE7 (io), 91 SIZ0/PE6 (io), 92 ~{AS}/PE5 (io), 93 ~{DS}/PE4 (io), 96 PE3 (io), 97 ~{AVEC}/PE2 (io), 98 ~{DSACK}1/PE1 (io), 99 ~{DSACK}0/PE0 (io), 100 ADDR0 (out), 102 DATA15/PG7 (io), 103 DATA14/PG6 (io), 104 DATA13/PG5 (io), 105 DATA12/PG4 (io), 106 DATA11/PG3 (io), 109 DATA10/PG2 (io), 110 DATA9/PG1 (io), 111 DATA8/PG0 (io), 112 DATA7/PH7 (io), 113 DATA6/PH6 (io), 114 DATA5/PH5 (io), 115 DATA4/PH4 (io), 116 DATA3/PH3 (io), 117 DATA2/PH2 (io), 118 DATA1/PH1 (io), 119 DATA0/PH0 (io), 122 ~{CSBOOT} (out), 123 ~{BR}/~{CS}0 (io), 124 ~{BG}/~{CSM} (out), 125 ~{BGACK}/~{CSE} (io), 126 FC0/~{CS}3/PC0 (out), 127 FC1/PC1 (out), 128 FC2/~{CS}5/PC2 (out), 131 ADDR19/~{CS}6/PC3 (out), 132 ADDR20/~{CS}7/PC4 (out), 133 ADDR21/~{CS}8/PC5 (out), 134 ADDR22/~{CS}9/PC6 (out), 135 ADDR23/~{CS}10/ECLK (out), 139 ~{BKPT}/DSCLK (in), 140 IPIPE1/DSI (out), 141 IPIPE0/DSO (out), 144 PCLK (in), 145 PWMB (out), 146 PWMA (out), 147 PAI (in), 148 IC4/OC5/OC1/PGP7 (io), 149 OC4/OC1/PGP6 (io), 150 OC3/OC1/PGP5 (io), 151 OC2/OC1/PGP4 (io), 152 OC1/PGP3 (io), 153 IC3/PGP2 (io), 154 IC2/PGP1 (io), 155 IC1/PGP0 (io), 158 PADA7/AN7 (in), 159 PADA6/AN6 (in), 160 VRL (in)
part B pins: 8 VSSA (power), 9 VDDA (power), 10 VDDE (power), 11 VSSE (power), 21 VSSI (power), 26 VDDE (power), 27 VSSE (power), 40 VDDE (power), 41 VSSE (power), 47 VDDE (power), 48 VSSE (power), 57 VDDE (power), 58 VSSE (power), 64 NC, 65 VSTBY (power), 67 VDDSYN (power), 69 VSSI (power), 70 VDDI (power), 72 VDDE (power), 73 VSSE (power), 75 VSSE (power), 94 VSSE (power), 95 VDDE (power), 101 VSSI (power), 107 VSSE (power), 108 VDDE (power), 120 VDDE (power), 121 VSSE (power), 129 VSSE (power), 130 VDDE (power), 136 VDDI (power), 137 VSSI (power), 138 NC, 142 VSSE (power), 143 VDDE (power), 156 VSSE (power), 157 VDDE (power)

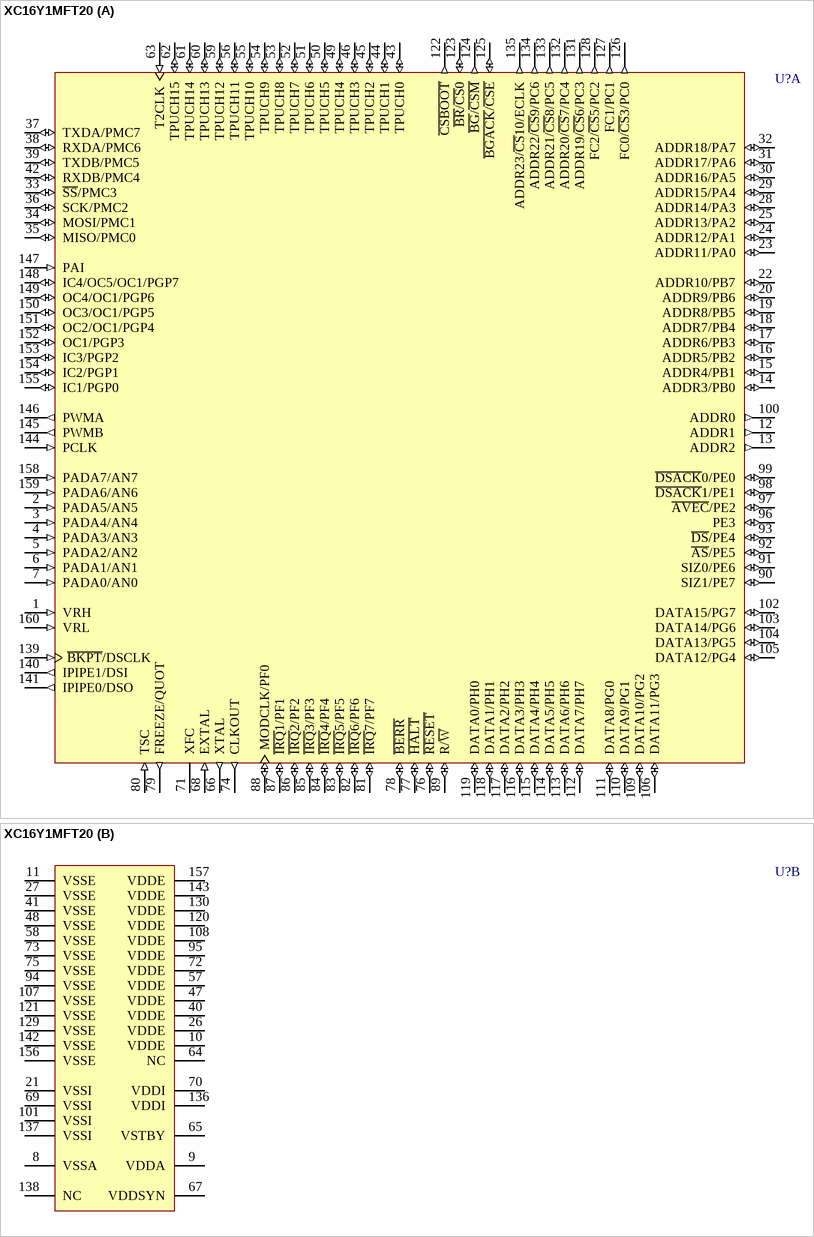
[diagram p129: symbol XC16Y1MFT20]

## XC16Y1MFT20
designator U?
16-Bit Microcontroller; PackageDocument: rev1.3, Nov-1998; Published: 21-Mar-2003; LatestRevisionDate: 6-Jun-2005; LatestRevisionNote: Stylized 3D Model Added.; DatasheetDocument: Jan-1993; PackageReference: 864A-01; Publisher: Altium Limited; Code_IPC: QFP28X28-160; ComponentLink1Description: Manufacturer Link; ComponentLink1URL: http://www.freescale.com/; ComponentLink2Description: Datasheet; ComponentLink2URL: http://www.freescale.com/files/microcontrollers/doc/prod_brief/MC68HC16Y1TS.pdf
footprint 864A-01 (QFP; 160 Leads; Body 28 x 28 mm; Pitch 0.65 mm)
3D model XC16-864A-01 (QFP; 160 Leads; Body 28 x 28 mm; Pitch 0.65 mm)
part A pins: 1 VRH (in), 2 PADA5/AN5 (in), 3 PADA4/AN4 (in), 4 PADA3/AN3 (in), 5 PADA2/AN2 (in), 6 PADA1/AN1 (in), 7 PADA0/AN0 (in), 12 ADDR1 (out), 13 ADDR2 (out), 14 ADDR3/PB0 (io), 15 ADDR4/PB1 (io), 16 ADDR5/PB2 (io), 17 ADDR6/PB3 (io), 18 ADDR7/PB4 (io), 19 ADDR8/PB5 (io), 20 ADDR9/PB6 (io), 22 ADDR10/PB7 (io), 23 ADDR11/PA0 (io), 24 ADDR12/PA1 (io), 25 ADDR13/PA2 (io), 28 ADDR14/PA3 (io), 29 ADDR15/PA4 (io), 30 ADDR16/PA5 (io), 31 ADDR17/PA6 (io), 32 ADDR18/PA7 (io), 33 ~{SS}/PMC3 (io), 34 MOSI/PMC1 (io), 35 MISO/PMC0 (io), 36 SCK/PMC2 (io), 37 TXDA/PMC7 (io), 38 RXDA/PMC6 (io), 39 TXDB/PMC5 (io), 42 RXDB/PMC4 (io), 43 TPUCH0 (io), 44 TPUCH1 (io), 45 TPUCH2 (io), 46 TPUCH3 (io), 49 TPUCH4 (io), 50 TPUCH5 (io), 51 TPUCH6 (io), 52 TPUCH7 (io), 53 TPUCH8 (io), 54 TPUCH9 (io), 55 TPUCH10 (io), 56 TPUCH11 (io), 59 TPUCH12 (io), 60 TPUCH13 (io), 61 TPUCH14 (io), 62 TPUCH15 (io), 63 T2CLK (in), 66 XTAL (out), 68 EXTAL (in), 71 XFC, 74 CLKOUT (out), 76 ~{RESET} (io), 77 ~{HALT} (io), 78 ~{BERR} (io), 79 FREEZE/QUOT (out), 80 TSC (in), 81 ~{IRQ}7/PF7 (io), 82 ~{IRQ}6/PF6 (io), 83 ~{IRQ}5/PF5 (io), 84 ~{IRQ}4/PF4 (io), 85 ~{IRQ}3/PF3 (io), 86 ~{IRQ}2/PF2 (io), 87 ~{IRQ}1/PF1 (io), 88 MODCLK/PF0 (io), 89 R/~{W} (io), 90 SIZ1/PE7 (io), 91 SIZ0/PE6 (io), 92 ~{AS}/PE5 (io), 93 ~{DS}/PE4 (io), 96 PE3 (io), 97 ~{AVEC}/PE2 (io), 98 ~{DSACK}1/PE1 (io), 99 ~{DSACK}0/PE0 (io), 100 ADDR0 (out), 102 DATA15/PG7 (io), 103 DATA14/PG6 (io), 104 DATA13/PG5 (io), 105 DATA12/PG4 (io), 106 DATA11/PG3 (io), 109 DATA10/PG2 (io), 110 DATA9/PG1 (io), 111 DATA8/PG0 (io), 112 DATA7/PH7 (io), 113 DATA6/PH6 (io), 114 DATA5/PH5 (io), 115 DATA4/PH4 (io), 116 DATA3/PH3 (io), 117 DATA2/PH2 (io), 118 DATA1/PH1 (io), 119 DATA0/PH0 (io), 122 ~{CSBOOT} (out), 123 ~{BR}/~{CS}0 (io), 124 ~{BG}/~{CSM} (out), 125 ~{BGACK}/~{CSE} (io), 126 FC0/~{CS}3/PC0 (out), 127 FC1/PC1 (out), 128 FC2/~{CS}5/PC2 (out), 131 ADDR19/~{CS}6/PC3 (out), 132 ADDR20/~{CS}7/PC4 (out), 133 ADDR21/~{CS}8/PC5 (out), 134 ADDR22/~{CS}9/PC6 (out), 135 ADDR23/~{CS}10/ECLK (out), 139 ~{BKPT}/DSCLK (in), 140 IPIPE1/DSI (out), 141 IPIPE0/DSO (out), 144 PCLK (in), 145 PWMB (out), 146 PWMA (out), 147 PAI (in), 148 IC4/OC5/OC1/PGP7 (io), 149 OC4/OC1/PGP6 (io), 150 OC3/OC1/PGP5 (io), 151 OC2/OC1/PGP4 (io), 152 OC1/PGP3 (io), 153 IC3/PGP2 (io), 154 IC2/PGP1 (io), 155 IC1/PGP0 (io), 158 PADA7/AN7 (in), 159 PADA6/AN6 (in), 160 VRL (in)
part B pins: 8 VSSA (power), 9 VDDA (power), 10 VDDE (power), 11 VSSE (power), 21 VSSI (power), 26 VDDE (power), 27 VSSE (power), 40 VDDE (power), 41 VSSE (power), 47 VDDE (power), 48 VSSE (power), 57 VDDE (power), 58 VSSE (power), 64 NC, 65 VSTBY (power), 67 VDDSYN (power), 69 VSSI (power), 70 VDDI (power), 72 VDDE (power), 73 VSSE (power), 75 VSSE (power), 94 VSSE (power), 95 VDDE (power), 101 VSSI (power), 107 VSSE (power), 108 VDDE (power), 120 VDDE (power), 121 VSSE (power), 129 VSSE (power), 130 VDDE (power), 136 VDDI (power), 137 VSSI (power), 138 NC, 142 VSSE (power), 143 VDDE (power), 156 VSSE (power), 157 VDDE (power)

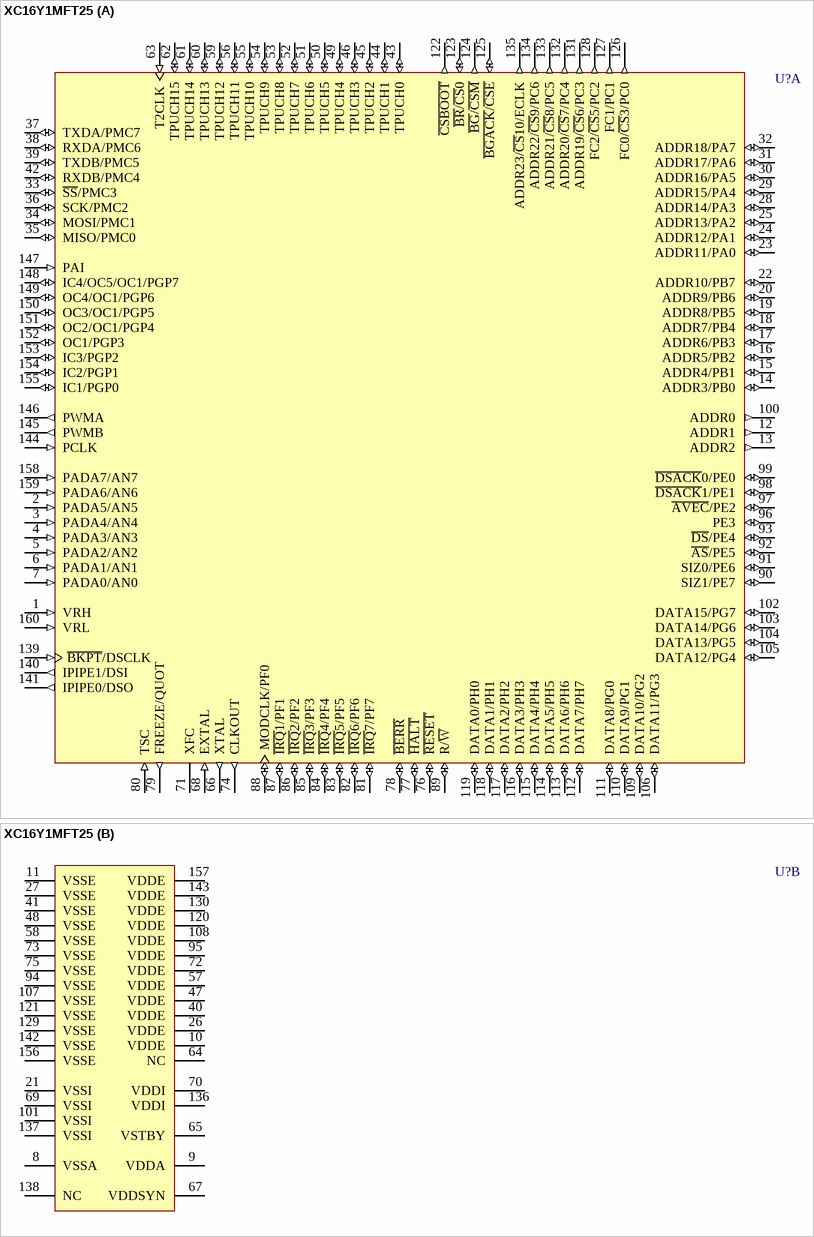
[diagram p130: symbol XC16Y1MFT25]

## XC16Y1MFT25
designator U?
16-Bit Microcontroller; PackageDocument: rev1.3, Nov-1998; Published: 21-Mar-2003; LatestRevisionDate: 6-Jun-2005; LatestRevisionNote: Stylized 3D Model Added.; DatasheetDocument: Jan-1993; PackageReference: 864A-01; Publisher: Altium Limited; Code_IPC: QFP28X28-160; ComponentLink1Description: Manufacturer Link; ComponentLink1URL: http://www.freescale.com/; ComponentLink2Description: Datasheet; ComponentLink2URL: http://www.freescale.com/files/microcontrollers/doc/prod_brief/MC68HC16Y1TS.pdf
footprint 864A-01 (QFP; 160 Leads; Body 28 x 28 mm; Pitch 0.65 mm)
3D model XC16-864A-01 (QFP; 160 Leads; Body 28 x 28 mm; Pitch 0.65 mm)
part A pins: 1 VRH (in), 2 PADA5/AN5 (in), 3 PADA4/AN4 (in), 4 PADA3/AN3 (in), 5 PADA2/AN2 (in), 6 PADA1/AN1 (in), 7 PADA0/AN0 (in), 12 ADDR1 (out), 13 ADDR2 (out), 14 ADDR3/PB0 (io), 15 ADDR4/PB1 (io), 16 ADDR5/PB2 (io), 17 ADDR6/PB3 (io), 18 ADDR7/PB4 (io), 19 ADDR8/PB5 (io), 20 ADDR9/PB6 (io), 22 ADDR10/PB7 (io), 23 ADDR11/PA0 (io), 24 ADDR12/PA1 (io), 25 ADDR13/PA2 (io), 28 ADDR14/PA3 (io), 29 ADDR15/PA4 (io), 30 ADDR16/PA5 (io), 31 ADDR17/PA6 (io), 32 ADDR18/PA7 (io), 33 ~{SS}/PMC3 (io), 34 MOSI/PMC1 (io), 35 MISO/PMC0 (io), 36 SCK/PMC2 (io), 37 TXDA/PMC7 (io), 38 RXDA/PMC6 (io), 39 TXDB/PMC5 (io), 42 RXDB/PMC4 (io), 43 TPUCH0 (io), 44 TPUCH1 (io), 45 TPUCH2 (io), 46 TPUCH3 (io), 49 TPUCH4 (io), 50 TPUCH5 (io), 51 TPUCH6 (io), 52 TPUCH7 (io), 53 TPUCH8 (io), 54 TPUCH9 (io), 55 TPUCH10 (io), 56 TPUCH11 (io), 59 TPUCH12 (io), 60 TPUCH13 (io), 61 TPUCH14 (io), 62 TPUCH15 (io), 63 T2CLK (in), 66 XTAL (out), 68 EXTAL (in), 71 XFC, 74 CLKOUT (out), 76 ~{RESET} (io), 77 ~{HALT} (io), 78 ~{BERR} (io), 79 FREEZE/QUOT (out), 80 TSC (in), 81 ~{IRQ}7/PF7 (io), 82 ~{IRQ}6/PF6 (io), 83 ~{IRQ}5/PF5 (io), 84 ~{IRQ}4/PF4 (io), 85 ~{IRQ}3/PF3 (io), 86 ~{IRQ}2/PF2 (io), 87 ~{IRQ}1/PF1 (io), 88 MODCLK/PF0 (io), 89 R/~{W} (io), 90 SIZ1/PE7 (io), 91 SIZ0/PE6 (io), 92 ~{AS}/PE5 (io), 93 ~{DS}/PE4 (io), 96 PE3 (io), 97 ~{AVEC}/PE2 (io), 98 ~{DSACK}1/PE1 (io), 99 ~{DSACK}0/PE0 (io), 100 ADDR0 (out), 102 DATA15/PG7 (io), 103 DATA14/PG6 (io), 104 DATA13/PG5 (io), 105 DATA12/PG4 (io), 106 DATA11/PG3 (io), 109 DATA10/PG2 (io), 110 DATA9/PG1 (io), 111 DATA8/PG0 (io), 112 DATA7/PH7 (io), 113 DATA6/PH6 (io), 114 DATA5/PH5 (io), 115 DATA4/PH4 (io), 116 DATA3/PH3 (io), 117 DATA2/PH2 (io), 118 DATA1/PH1 (io), 119 DATA0/PH0 (io), 122 ~{CSBOOT} (out), 123 ~{BR}/~{CS}0 (io), 124 ~{BG}/~{CSM} (out), 125 ~{BGACK}/~{CSE} (io), 126 FC0/~{CS}3/PC0 (out), 127 FC1/PC1 (out), 128 FC2/~{CS}5/PC2 (out), 131 ADDR19/~{CS}6/PC3 (out), 132 ADDR20/~{CS}7/PC4 (out), 133 ADDR21/~{CS}8/PC5 (out), 134 ADDR22/~{CS}9/PC6 (out), 135 ADDR23/~{CS}10/ECLK (out), 139 ~{BKPT}/DSCLK (in), 140 IPIPE1/DSI (out), 141 IPIPE0/DSO (out), 144 PCLK (in), 145 PWMB (out), 146 PWMA (out), 147 PAI (in), 148 IC4/OC5/OC1/PGP7 (io), 149 OC4/OC1/PGP6 (io), 150 OC3/OC1/PGP5 (io), 151 OC2/OC1/PGP4 (io), 152 OC1/PGP3 (io), 153 IC3/PGP2 (io), 154 IC2/PGP1 (io), 155 IC1/PGP0 (io), 158 PADA7/AN7 (in), 159 PADA6/AN6 (in), 160 VRL (in)
part B pins: 8 VSSA (power), 9 VDDA (power), 10 VDDE (power), 11 VSSE (power), 21 VSSI (power), 26 VDDE (power), 27 VSSE (power), 40 VDDE (power), 41 VSSE (power), 47 VDDE (power), 48 VSSE (power), 57 VDDE (power), 58 VSSE (power), 64 NC, 65 VSTBY (power), 67 VDDSYN (power), 69 VSSI (power), 70 VDDI (power), 72 VDDE (power), 73 VSSE (power), 75 VSSE (power), 94 VSSE (power), 95 VDDE (power), 101 VSSI (power), 107 VSSE (power), 108 VDDE (power), 120 VDDE (power), 121 VSSE (power), 129 VSSE (power), 130 VDDE (power), 136 VDDI (power), 137 VSSI (power), 138 NC, 142 VSSE (power), 143 VDDE (power), 156 VSSE (power), 157 VDDE (power)

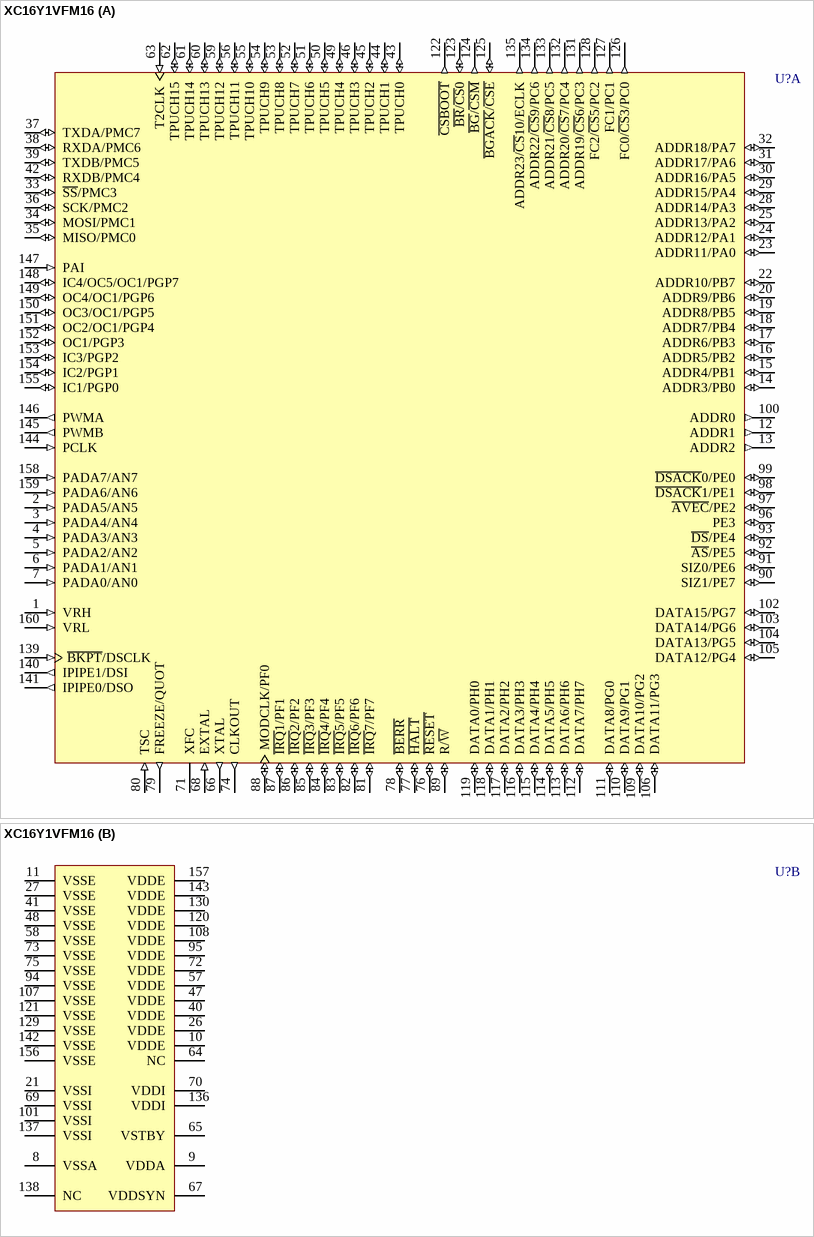
[diagram p131: symbol XC16Y1VFM16]

## XC16Y1VFM16
designator U?
16-Bit Microcontroller; PackageDocument: 1993; Published: 21-Mar-2003; LatestRevisionDate: 6-Jun-2005; LatestRevisionNote: Stylized 3D Model Added.; DatasheetDocument: Jan-1993; PackageReference: 887-01; Publisher: Altium Limited; ComponentLink1Description: Manufacturer Link; ComponentLink1URL: http://www.freescale.com/; ComponentLink2Description: Datasheet; ComponentLink2URL: http://www.freescale.com/files/microcontrollers/doc/prod_brief/MC68HC16Y1TS.pdf
footprint 887-01 (QFP, with Molded Carrier Ring; 160 Leads; Body 28 x 28 mm; Pitch 0.65mm)
3D model XC16-887-01 (QFP, with Molded Carrier Ring; 160 Leads; Body 28 x 28 mm; Pitch 0.65mm)
part A pins: 1 VRH (in), 2 PADA5/AN5 (in), 3 PADA4/AN4 (in), 4 PADA3/AN3 (in), 5 PADA2/AN2 (in), 6 PADA1/AN1 (in), 7 PADA0/AN0 (in), 12 ADDR1 (out), 13 ADDR2 (out), 14 ADDR3/PB0 (io), 15 ADDR4/PB1 (io), 16 ADDR5/PB2 (io), 17 ADDR6/PB3 (io), 18 ADDR7/PB4 (io), 19 ADDR8/PB5 (io), 20 ADDR9/PB6 (io), 22 ADDR10/PB7 (io), 23 ADDR11/PA0 (io), 24 ADDR12/PA1 (io), 25 ADDR13/PA2 (io), 28 ADDR14/PA3 (io), 29 ADDR15/PA4 (io), 30 ADDR16/PA5 (io), 31 ADDR17/PA6 (io), 32 ADDR18/PA7 (io), 33 ~{SS}/PMC3 (io), 34 MOSI/PMC1 (io), 35 MISO/PMC0 (io), 36 SCK/PMC2 (io), 37 TXDA/PMC7 (io), 38 RXDA/PMC6 (io), 39 TXDB/PMC5 (io), 42 RXDB/PMC4 (io), 43 TPUCH0 (io), 44 TPUCH1 (io), 45 TPUCH2 (io), 46 TPUCH3 (io), 49 TPUCH4 (io), 50 TPUCH5 (io), 51 TPUCH6 (io), 52 TPUCH7 (io), 53 TPUCH8 (io), 54 TPUCH9 (io), 55 TPUCH10 (io), 56 TPUCH11 (io), 59 TPUCH12 (io), 60 TPUCH13 (io), 61 TPUCH14 (io), 62 TPUCH15 (io), 63 T2CLK (in), 66 XTAL (out), 68 EXTAL (in), 71 XFC, 74 CLKOUT (out), 76 ~{RESET} (io), 77 ~{HALT} (io), 78 ~{BERR} (io), 79 FREEZE/QUOT (out), 80 TSC (in), 81 ~{IRQ}7/PF7 (io), 82 ~{IRQ}6/PF6 (io), 83 ~{IRQ}5/PF5 (io), 84 ~{IRQ}4/PF4 (io), 85 ~{IRQ}3/PF3 (io), 86 ~{IRQ}2/PF2 (io), 87 ~{IRQ}1/PF1 (io), 88 MODCLK/PF0 (io), 89 R/~{W} (io), 90 SIZ1/PE7 (io), 91 SIZ0/PE6 (io), 92 ~{AS}/PE5 (io), 93 ~{DS}/PE4 (io), 96 PE3 (io), 97 ~{AVEC}/PE2 (io), 98 ~{DSACK}1/PE1 (io), 99 ~{DSACK}0/PE0 (io), 100 ADDR0 (out), 102 DATA15/PG7 (io), 103 DATA14/PG6 (io), 104 DATA13/PG5 (io), 105 DATA12/PG4 (io), 106 DATA11/PG3 (io), 109 DATA10/PG2 (io), 110 DATA9/PG1 (io), 111 DATA8/PG0 (io), 112 DATA7/PH7 (io), 113 DATA6/PH6 (io), 114 DATA5/PH5 (io), 115 DATA4/PH4 (io), 116 DATA3/PH3 (io), 117 DATA2/PH2 (io), 118 DATA1/PH1 (io), 119 DATA0/PH0 (io), 122 ~{CSBOOT} (out), 123 ~{BR}/~{CS}0 (io), 124 ~{BG}/~{CSM} (out), 125 ~{BGACK}/~{CSE} (io), 126 FC0/~{CS}3/PC0 (out), 127 FC1/PC1 (out), 128 FC2/~{CS}5/PC2 (out), 131 ADDR19/~{CS}6/PC3 (out), 132 ADDR20/~{CS}7/PC4 (out), 133 ADDR21/~{CS}8/PC5 (out), 134 ADDR22/~{CS}9/PC6 (out), 135 ADDR23/~{CS}10/ECLK (out), 139 ~{BKPT}/DSCLK (in), 140 IPIPE1/DSI (out), 141 IPIPE0/DSO (out), 144 PCLK (in), 145 PWMB (out), 146 PWMA (out), 147 PAI (in), 148 IC4/OC5/OC1/PGP7 (io), 149 OC4/OC1/PGP6 (io), 150 OC3/OC1/PGP5 (io), 151 OC2/OC1/PGP4 (io), 152 OC1/PGP3 (io), 153 IC3/PGP2 (io), 154 IC2/PGP1 (io), 155 IC1/PGP0 (io), 158 PADA7/AN7 (in), 159 PADA6/AN6 (in), 160 VRL (in)
part B pins: 8 VSSA (power), 9 VDDA (power), 10 VDDE (power), 11 VSSE (power), 21 VSSI (power), 26 VDDE (power), 27 VSSE (power), 40 VDDE (power), 41 VSSE (power), 47 VDDE (power), 48 VSSE (power), 57 VDDE (power), 58 VSSE (power), 64 NC, 65 VSTBY (power), 67 VDDSYN (power), 69 VSSI (power), 70 VDDI (power), 72 VDDE (power), 73 VSSE (power), 75 VSSE (power), 94 VSSE (power), 95 VDDE (power), 101 VSSI (power), 107 VSSE (power), 108 VDDE (power), 120 VDDE (power), 121 VSSE (power), 129 VSSE (power), 130 VDDE (power), 136 VDDI (power), 137 VSSI (power), 138 NC, 142 VSSE (power), 143 VDDE (power), 156 VSSE (power), 157 VDDE (power)

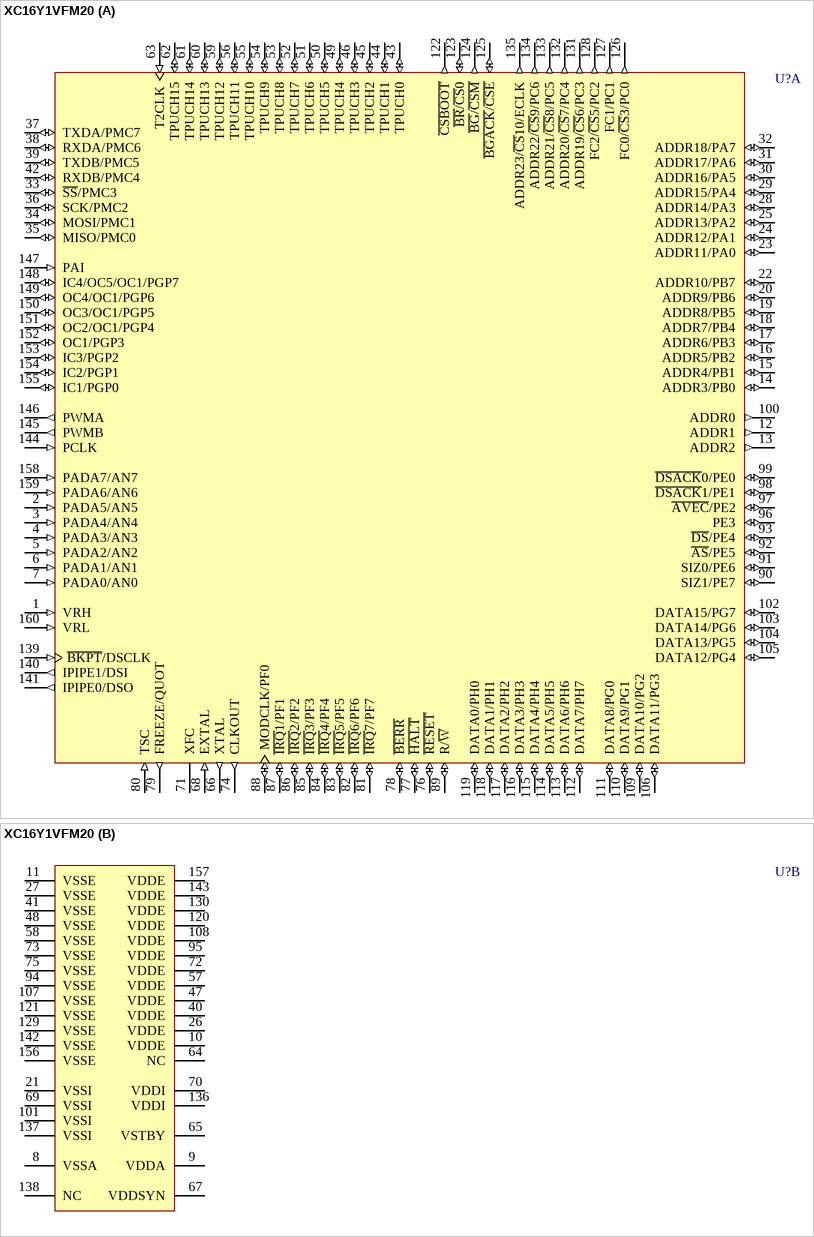
[diagram p132: symbol XC16Y1VFM20]

## XC16Y1VFM20
designator U?
16-Bit Microcontroller; PackageDocument: 1993; Published: 21-Mar-2003; LatestRevisionDate: 6-Jun-2005; LatestRevisionNote: Stylized 3D Model Added.; DatasheetDocument: Jan-1993; PackageReference: 887-01; Publisher: Altium Limited; ComponentLink1Description: Manufacturer Link; ComponentLink1URL: http://www.freescale.com/; ComponentLink2Description: Datasheet; ComponentLink2URL: http://www.freescale.com/files/microcontrollers/doc/prod_brief/MC68HC16Y1TS.pdf
footprint 887-01 (QFP, with Molded Carrier Ring; 160 Leads; Body 28 x 28 mm; Pitch 0.65mm)
3D model XC16-887-01 (QFP, with Molded Carrier Ring; 160 Leads; Body 28 x 28 mm; Pitch 0.65mm)
part A pins: 1 VRH (in), 2 PADA5/AN5 (in), 3 PADA4/AN4 (in), 4 PADA3/AN3 (in), 5 PADA2/AN2 (in), 6 PADA1/AN1 (in), 7 PADA0/AN0 (in), 12 ADDR1 (out), 13 ADDR2 (out), 14 ADDR3/PB0 (io), 15 ADDR4/PB1 (io), 16 ADDR5/PB2 (io), 17 ADDR6/PB3 (io), 18 ADDR7/PB4 (io), 19 ADDR8/PB5 (io), 20 ADDR9/PB6 (io), 22 ADDR10/PB7 (io), 23 ADDR11/PA0 (io), 24 ADDR12/PA1 (io), 25 ADDR13/PA2 (io), 28 ADDR14/PA3 (io), 29 ADDR15/PA4 (io), 30 ADDR16/PA5 (io), 31 ADDR17/PA6 (io), 32 ADDR18/PA7 (io), 33 ~{SS}/PMC3 (io), 34 MOSI/PMC1 (io), 35 MISO/PMC0 (io), 36 SCK/PMC2 (io), 37 TXDA/PMC7 (io), 38 RXDA/PMC6 (io), 39 TXDB/PMC5 (io), 42 RXDB/PMC4 (io), 43 TPUCH0 (io), 44 TPUCH1 (io), 45 TPUCH2 (io), 46 TPUCH3 (io), 49 TPUCH4 (io), 50 TPUCH5 (io), 51 TPUCH6 (io), 52 TPUCH7 (io), 53 TPUCH8 (io), 54 TPUCH9 (io), 55 TPUCH10 (io), 56 TPUCH11 (io), 59 TPUCH12 (io), 60 TPUCH13 (io), 61 TPUCH14 (io), 62 TPUCH15 (io), 63 T2CLK (in), 66 XTAL (out), 68 EXTAL (in), 71 XFC, 74 CLKOUT (out), 76 ~{RESET} (io), 77 ~{HALT} (io), 78 ~{BERR} (io), 79 FREEZE/QUOT (out), 80 TSC (in), 81 ~{IRQ}7/PF7 (io), 82 ~{IRQ}6/PF6 (io), 83 ~{IRQ}5/PF5 (io), 84 ~{IRQ}4/PF4 (io), 85 ~{IRQ}3/PF3 (io), 86 ~{IRQ}2/PF2 (io), 87 ~{IRQ}1/PF1 (io), 88 MODCLK/PF0 (io), 89 R/~{W} (io), 90 SIZ1/PE7 (io), 91 SIZ0/PE6 (io), 92 ~{AS}/PE5 (io), 93 ~{DS}/PE4 (io), 96 PE3 (io), 97 ~{AVEC}/PE2 (io), 98 ~{DSACK}1/PE1 (io), 99 ~{DSACK}0/PE0 (io), 100 ADDR0 (out), 102 DATA15/PG7 (io), 103 DATA14/PG6 (io), 104 DATA13/PG5 (io), 105 DATA12/PG4 (io), 106 DATA11/PG3 (io), 109 DATA10/PG2 (io), 110 DATA9/PG1 (io), 111 DATA8/PG0 (io), 112 DATA7/PH7 (io), 113 DATA6/PH6 (io), 114 DATA5/PH5 (io), 115 DATA4/PH4 (io), 116 DATA3/PH3 (io), 117 DATA2/PH2 (io), 118 DATA1/PH1 (io), 119 DATA0/PH0 (io), 122 ~{CSBOOT} (out), 123 ~{BR}/~{CS}0 (io), 124 ~{BG}/~{CSM} (out), 125 ~{BGACK}/~{CSE} (io), 126 FC0/~{CS}3/PC0 (out), 127 FC1/PC1 (out), 128 FC2/~{CS}5/PC2 (out), 131 ADDR19/~{CS}6/PC3 (out), 132 ADDR20/~{CS}7/PC4 (out), 133 ADDR21/~{CS}8/PC5 (out), 134 ADDR22/~{CS}9/PC6 (out), 135 ADDR23/~{CS}10/ECLK (out), 139 ~{BKPT}/DSCLK (in), 140 IPIPE1/DSI (out), 141 IPIPE0/DSO (out), 144 PCLK (in), 145 PWMB (out), 146 PWMA (out), 147 PAI (in), 148 IC4/OC5/OC1/PGP7 (io), 149 OC4/OC1/PGP6 (io), 150 OC3/OC1/PGP5 (io), 151 OC2/OC1/PGP4 (io), 152 OC1/PGP3 (io), 153 IC3/PGP2 (io), 154 IC2/PGP1 (io), 155 IC1/PGP0 (io), 158 PADA7/AN7 (in), 159 PADA6/AN6 (in), 160 VRL (in)
part B pins: 8 VSSA (power), 9 VDDA (power), 10 VDDE (power), 11 VSSE (power), 21 VSSI (power), 26 VDDE (power), 27 VSSE (power), 40 VDDE (power), 41 VSSE (power), 47 VDDE (power), 48 VSSE (power), 57 VDDE (power), 58 VSSE (power), 64 NC, 65 VSTBY (power), 67 VDDSYN (power), 69 VSSI (power), 70 VDDI (power), 72 VDDE (power), 73 VSSE (power), 75 VSSE (power), 94 VSSE (power), 95 VDDE (power), 101 VSSI (power), 107 VSSE (power), 108 VDDE (power), 120 VDDE (power), 121 VSSE (power), 129 VSSE (power), 130 VDDE (power), 136 VDDI (power), 137 VSSI (power), 138 NC, 142 VSSE (power), 143 VDDE (power), 156 VSSE (power), 157 VDDE (power)

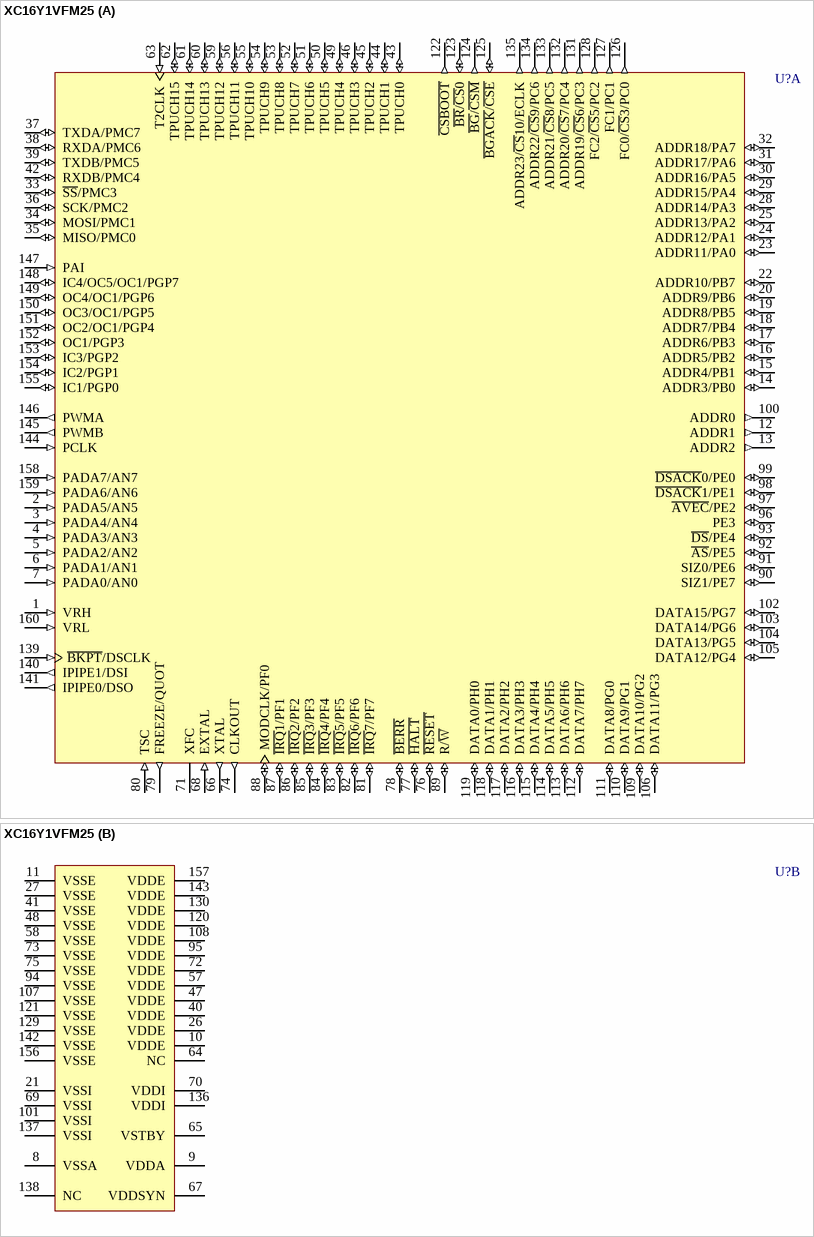
[diagram p133: symbol XC16Y1VFM25]

## XC16Y1VFM25
designator U?
16-Bit Microcontroller; PackageDocument: 1993; Published: 21-Mar-2003; LatestRevisionDate: 6-Jun-2005; LatestRevisionNote: Stylized 3D Model Added.; DatasheetDocument: Jan-1993; PackageReference: 887-01; Publisher: Altium Limited; ComponentLink1Description: Manufacturer Link; ComponentLink1URL: http://www.freescale.com/; ComponentLink2Description: Datasheet; ComponentLink2URL: http://www.freescale.com/files/microcontrollers/doc/prod_brief/MC68HC16Y1TS.pdf
footprint 887-01 (QFP, with Molded Carrier Ring; 160 Leads; Body 28 x 28 mm; Pitch 0.65mm)
3D model XC16-887-01 (QFP, with Molded Carrier Ring; 160 Leads; Body 28 x 28 mm; Pitch 0.65mm)
part A pins: 1 VRH (in), 2 PADA5/AN5 (in), 3 PADA4/AN4 (in), 4 PADA3/AN3 (in), 5 PADA2/AN2 (in), 6 PADA1/AN1 (in), 7 PADA0/AN0 (in), 12 ADDR1 (out), 13 ADDR2 (out), 14 ADDR3/PB0 (io), 15 ADDR4/PB1 (io), 16 ADDR5/PB2 (io), 17 ADDR6/PB3 (io), 18 ADDR7/PB4 (io), 19 ADDR8/PB5 (io), 20 ADDR9/PB6 (io), 22 ADDR10/PB7 (io), 23 ADDR11/PA0 (io), 24 ADDR12/PA1 (io), 25 ADDR13/PA2 (io), 28 ADDR14/PA3 (io), 29 ADDR15/PA4 (io), 30 ADDR16/PA5 (io), 31 ADDR17/PA6 (io), 32 ADDR18/PA7 (io), 33 ~{SS}/PMC3 (io), 34 MOSI/PMC1 (io), 35 MISO/PMC0 (io), 36 SCK/PMC2 (io), 37 TXDA/PMC7 (io), 38 RXDA/PMC6 (io), 39 TXDB/PMC5 (io), 42 RXDB/PMC4 (io), 43 TPUCH0 (io), 44 TPUCH1 (io), 45 TPUCH2 (io), 46 TPUCH3 (io), 49 TPUCH4 (io), 50 TPUCH5 (io), 51 TPUCH6 (io), 52 TPUCH7 (io), 53 TPUCH8 (io), 54 TPUCH9 (io), 55 TPUCH10 (io), 56 TPUCH11 (io), 59 TPUCH12 (io), 60 TPUCH13 (io), 61 TPUCH14 (io), 62 TPUCH15 (io), 63 T2CLK (in), 66 XTAL (out), 68 EXTAL (in), 71 XFC, 74 CLKOUT (out), 76 ~{RESET} (io), 77 ~{HALT} (io), 78 ~{BERR} (io), 79 FREEZE/QUOT (out), 80 TSC (in), 81 ~{IRQ}7/PF7 (io), 82 ~{IRQ}6/PF6 (io), 83 ~{IRQ}5/PF5 (io), 84 ~{IRQ}4/PF4 (io), 85 ~{IRQ}3/PF3 (io), 86 ~{IRQ}2/PF2 (io), 87 ~{IRQ}1/PF1 (io), 88 MODCLK/PF0 (io), 89 R/~{W} (io), 90 SIZ1/PE7 (io), 91 SIZ0/PE6 (io), 92 ~{AS}/PE5 (io), 93 ~{DS}/PE4 (io), 96 PE3 (io), 97 ~{AVEC}/PE2 (io), 98 ~{DSACK}1/PE1 (io), 99 ~{DSACK}0/PE0 (io), 100 ADDR0 (out), 102 DATA15/PG7 (io), 103 DATA14/PG6 (io), 104 DATA13/PG5 (io), 105 DATA12/PG4 (io), 106 DATA11/PG3 (io), 109 DATA10/PG2 (io), 110 DATA9/PG1 (io), 111 DATA8/PG0 (io), 112 DATA7/PH7 (io), 113 DATA6/PH6 (io), 114 DATA5/PH5 (io), 115 DATA4/PH4 (io), 116 DATA3/PH3 (io), 117 DATA2/PH2 (io), 118 DATA1/PH1 (io), 119 DATA0/PH0 (io), 122 ~{CSBOOT} (out), 123 ~{BR}/~{CS}0 (io), 124 ~{BG}/~{CSM} (out), 125 ~{BGACK}/~{CSE} (io), 126 FC0/~{CS}3/PC0 (out), 127 FC1/PC1 (out), 128 FC2/~{CS}5/PC2 (out), 131 ADDR19/~{CS}6/PC3 (out), 132 ADDR20/~{CS}7/PC4 (out), 133 ADDR21/~{CS}8/PC5 (out), 134 ADDR22/~{CS}9/PC6 (out), 135 ADDR23/~{CS}10/ECLK (out), 139 ~{BKPT}/DSCLK (in), 140 IPIPE1/DSI (out), 141 IPIPE0/DSO (out), 144 PCLK (in), 145 PWMB (out), 146 PWMA (out), 147 PAI (in), 148 IC4/OC5/OC1/PGP7 (io), 149 OC4/OC1/PGP6 (io), 150 OC3/OC1/PGP5 (io), 151 OC2/OC1/PGP4 (io), 152 OC1/PGP3 (io), 153 IC3/PGP2 (io), 154 IC2/PGP1 (io), 155 IC1/PGP0 (io), 158 PADA7/AN7 (in), 159 PADA6/AN6 (in), 160 VRL (in)
part B pins: 8 VSSA (power), 9 VDDA (power), 10 VDDE (power), 11 VSSE (power), 21 VSSI (power), 26 VDDE (power), 27 VSSE (power), 40 VDDE (power), 41 VSSE (power), 47 VDDE (power), 48 VSSE (power), 57 VDDE (power), 58 VSSE (power), 64 NC, 65 VSTBY (power), 67 VDDSYN (power), 69 VSSI (power), 70 VDDI (power), 72 VDDE (power), 73 VSSE (power), 75 VSSE (power), 94 VSSE (power), 95 VDDE (power), 101 VSSI (power), 107 VSSE (power), 108 VDDE (power), 120 VDDE (power), 121 VSSE (power), 129 VSSE (power), 130 VDDE (power), 136 VDDI (power), 137 VSSI (power), 138 NC, 142 VSSE (power), 143 VDDE (power), 156 VSSE (power), 157 VDDE (power)

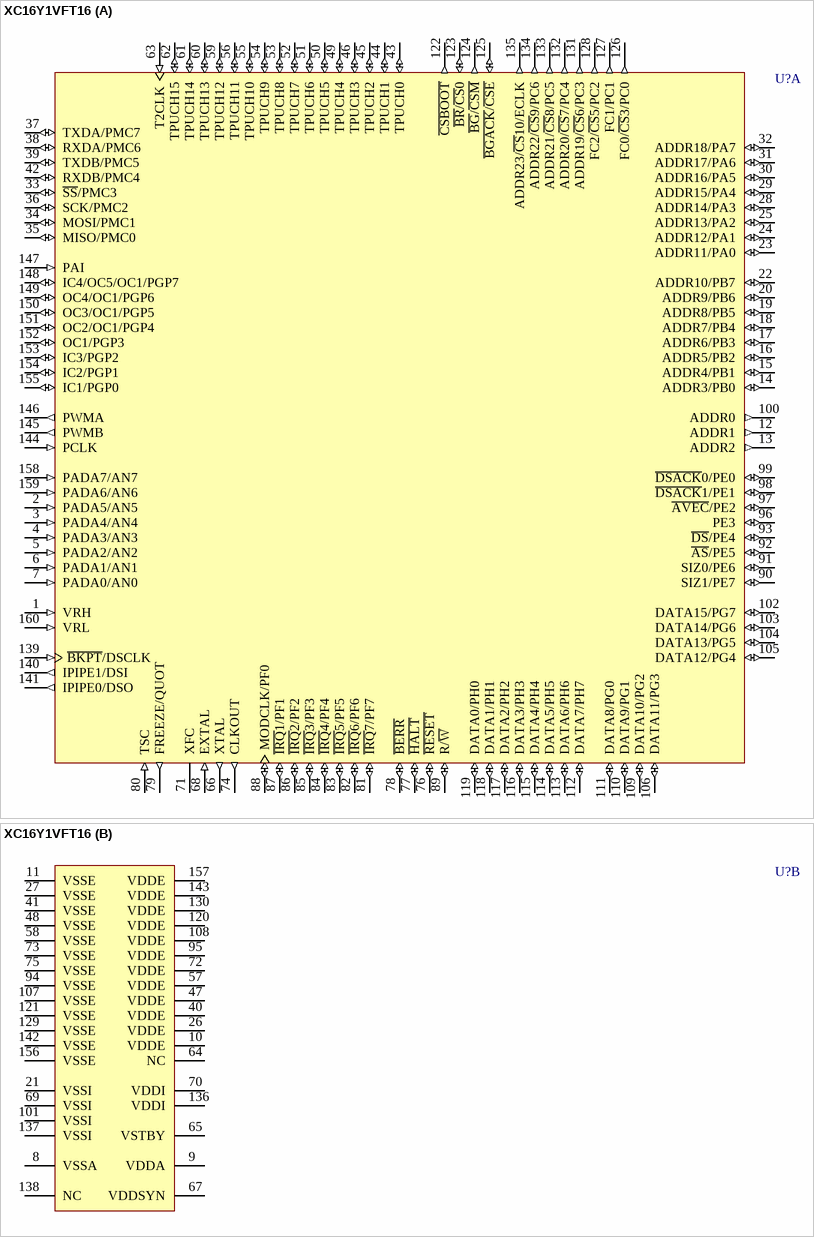
[diagram p134: symbol XC16Y1VFT16]

## XC16Y1VFT16
designator U?
16-Bit Microcontroller; PackageDocument: rev1.3, Nov-1998; Published: 21-Mar-2003; LatestRevisionDate: 6-Jun-2005; LatestRevisionNote: Stylized 3D Model Added.; DatasheetDocument: Jan-1993; PackageReference: 864A-01; Publisher: Altium Limited; Code_IPC: QFP28X28-160; ComponentLink1Description: Manufacturer Link; ComponentLink1URL: http://www.freescale.com/; ComponentLink2Description: Datasheet; ComponentLink2URL: http://www.freescale.com/files/microcontrollers/doc/prod_brief/MC68HC16Y1TS.pdf
footprint 864A-01 (QFP; 160 Leads; Body 28 x 28 mm; Pitch 0.65 mm)
3D model XC16-864A-01 (QFP; 160 Leads; Body 28 x 28 mm; Pitch 0.65 mm)
part A pins: 1 VRH (in), 2 PADA5/AN5 (in), 3 PADA4/AN4 (in), 4 PADA3/AN3 (in), 5 PADA2/AN2 (in), 6 PADA1/AN1 (in), 7 PADA0/AN0 (in), 12 ADDR1 (out), 13 ADDR2 (out), 14 ADDR3/PB0 (io), 15 ADDR4/PB1 (io), 16 ADDR5/PB2 (io), 17 ADDR6/PB3 (io), 18 ADDR7/PB4 (io), 19 ADDR8/PB5 (io), 20 ADDR9/PB6 (io), 22 ADDR10/PB7 (io), 23 ADDR11/PA0 (io), 24 ADDR12/PA1 (io), 25 ADDR13/PA2 (io), 28 ADDR14/PA3 (io), 29 ADDR15/PA4 (io), 30 ADDR16/PA5 (io), 31 ADDR17/PA6 (io), 32 ADDR18/PA7 (io), 33 ~{SS}/PMC3 (io), 34 MOSI/PMC1 (io), 35 MISO/PMC0 (io), 36 SCK/PMC2 (io), 37 TXDA/PMC7 (io), 38 RXDA/PMC6 (io), 39 TXDB/PMC5 (io), 42 RXDB/PMC4 (io), 43 TPUCH0 (io), 44 TPUCH1 (io), 45 TPUCH2 (io), 46 TPUCH3 (io), 49 TPUCH4 (io), 50 TPUCH5 (io), 51 TPUCH6 (io), 52 TPUCH7 (io), 53 TPUCH8 (io), 54 TPUCH9 (io), 55 TPUCH10 (io), 56 TPUCH11 (io), 59 TPUCH12 (io), 60 TPUCH13 (io), 61 TPUCH14 (io), 62 TPUCH15 (io), 63 T2CLK (in), 66 XTAL (out), 68 EXTAL (in), 71 XFC, 74 CLKOUT (out), 76 ~{RESET} (io), 77 ~{HALT} (io), 78 ~{BERR} (io), 79 FREEZE/QUOT (out), 80 TSC (in), 81 ~{IRQ}7/PF7 (io), 82 ~{IRQ}6/PF6 (io), 83 ~{IRQ}5/PF5 (io), 84 ~{IRQ}4/PF4 (io), 85 ~{IRQ}3/PF3 (io), 86 ~{IRQ}2/PF2 (io), 87 ~{IRQ}1/PF1 (io), 88 MODCLK/PF0 (io), 89 R/~{W} (io), 90 SIZ1/PE7 (io), 91 SIZ0/PE6 (io), 92 ~{AS}/PE5 (io), 93 ~{DS}/PE4 (io), 96 PE3 (io), 97 ~{AVEC}/PE2 (io), 98 ~{DSACK}1/PE1 (io), 99 ~{DSACK}0/PE0 (io), 100 ADDR0 (out), 102 DATA15/PG7 (io), 103 DATA14/PG6 (io), 104 DATA13/PG5 (io), 105 DATA12/PG4 (io), 106 DATA11/PG3 (io), 109 DATA10/PG2 (io), 110 DATA9/PG1 (io), 111 DATA8/PG0 (io), 112 DATA7/PH7 (io), 113 DATA6/PH6 (io), 114 DATA5/PH5 (io), 115 DATA4/PH4 (io), 116 DATA3/PH3 (io), 117 DATA2/PH2 (io), 118 DATA1/PH1 (io), 119 DATA0/PH0 (io), 122 ~{CSBOOT} (out), 123 ~{BR}/~{CS}0 (io), 124 ~{BG}/~{CSM} (out), 125 ~{BGACK}/~{CSE} (io), 126 FC0/~{CS}3/PC0 (out), 127 FC1/PC1 (out), 128 FC2/~{CS}5/PC2 (out), 131 ADDR19/~{CS}6/PC3 (out), 132 ADDR20/~{CS}7/PC4 (out), 133 ADDR21/~{CS}8/PC5 (out), 134 ADDR22/~{CS}9/PC6 (out), 135 ADDR23/~{CS}10/ECLK (out), 139 ~{BKPT}/DSCLK (in), 140 IPIPE1/DSI (out), 141 IPIPE0/DSO (out), 144 PCLK (in), 145 PWMB (out), 146 PWMA (out), 147 PAI (in), 148 IC4/OC5/OC1/PGP7 (io), 149 OC4/OC1/PGP6 (io), 150 OC3/OC1/PGP5 (io), 151 OC2/OC1/PGP4 (io), 152 OC1/PGP3 (io), 153 IC3/PGP2 (io), 154 IC2/PGP1 (io), 155 IC1/PGP0 (io), 158 PADA7/AN7 (in), 159 PADA6/AN6 (in), 160 VRL (in)
part B pins: 8 VSSA (power), 9 VDDA (power), 10 VDDE (power), 11 VSSE (power), 21 VSSI (power), 26 VDDE (power), 27 VSSE (power), 40 VDDE (power), 41 VSSE (power), 47 VDDE (power), 48 VSSE (power), 57 VDDE (power), 58 VSSE (power), 64 NC, 65 VSTBY (power), 67 VDDSYN (power), 69 VSSI (power), 70 VDDI (power), 72 VDDE (power), 73 VSSE (power), 75 VSSE (power), 94 VSSE (power), 95 VDDE (power), 101 VSSI (power), 107 VSSE (power), 108 VDDE (power), 120 VDDE (power), 121 VSSE (power), 129 VSSE (power), 130 VDDE (power), 136 VDDI (power), 137 VSSI (power), 138 NC, 142 VSSE (power), 143 VDDE (power), 156 VSSE (power), 157 VDDE (power)

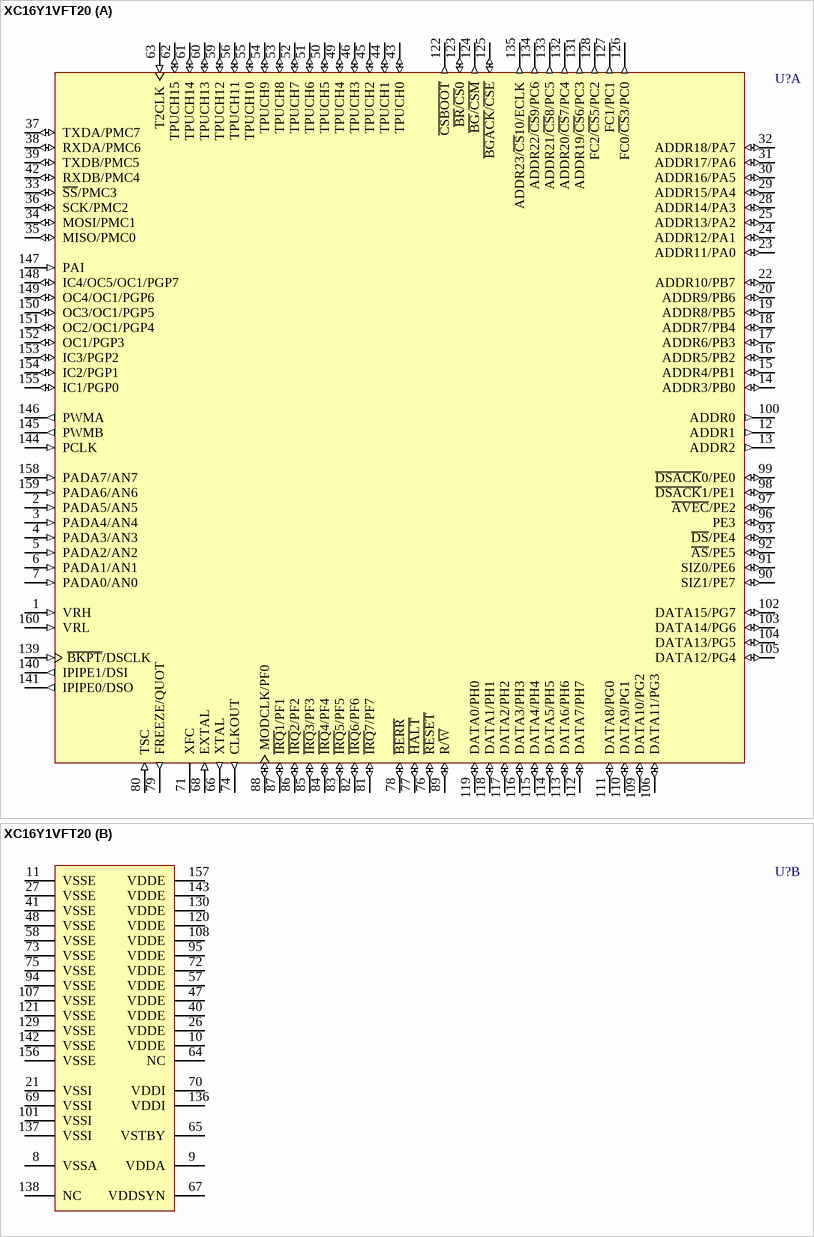
[diagram p135: symbol XC16Y1VFT20]